# Altium integrated library Microchip Microcontroller 8-Bit PIC16.IntLib: 1412 symbols (part 24 of 47)
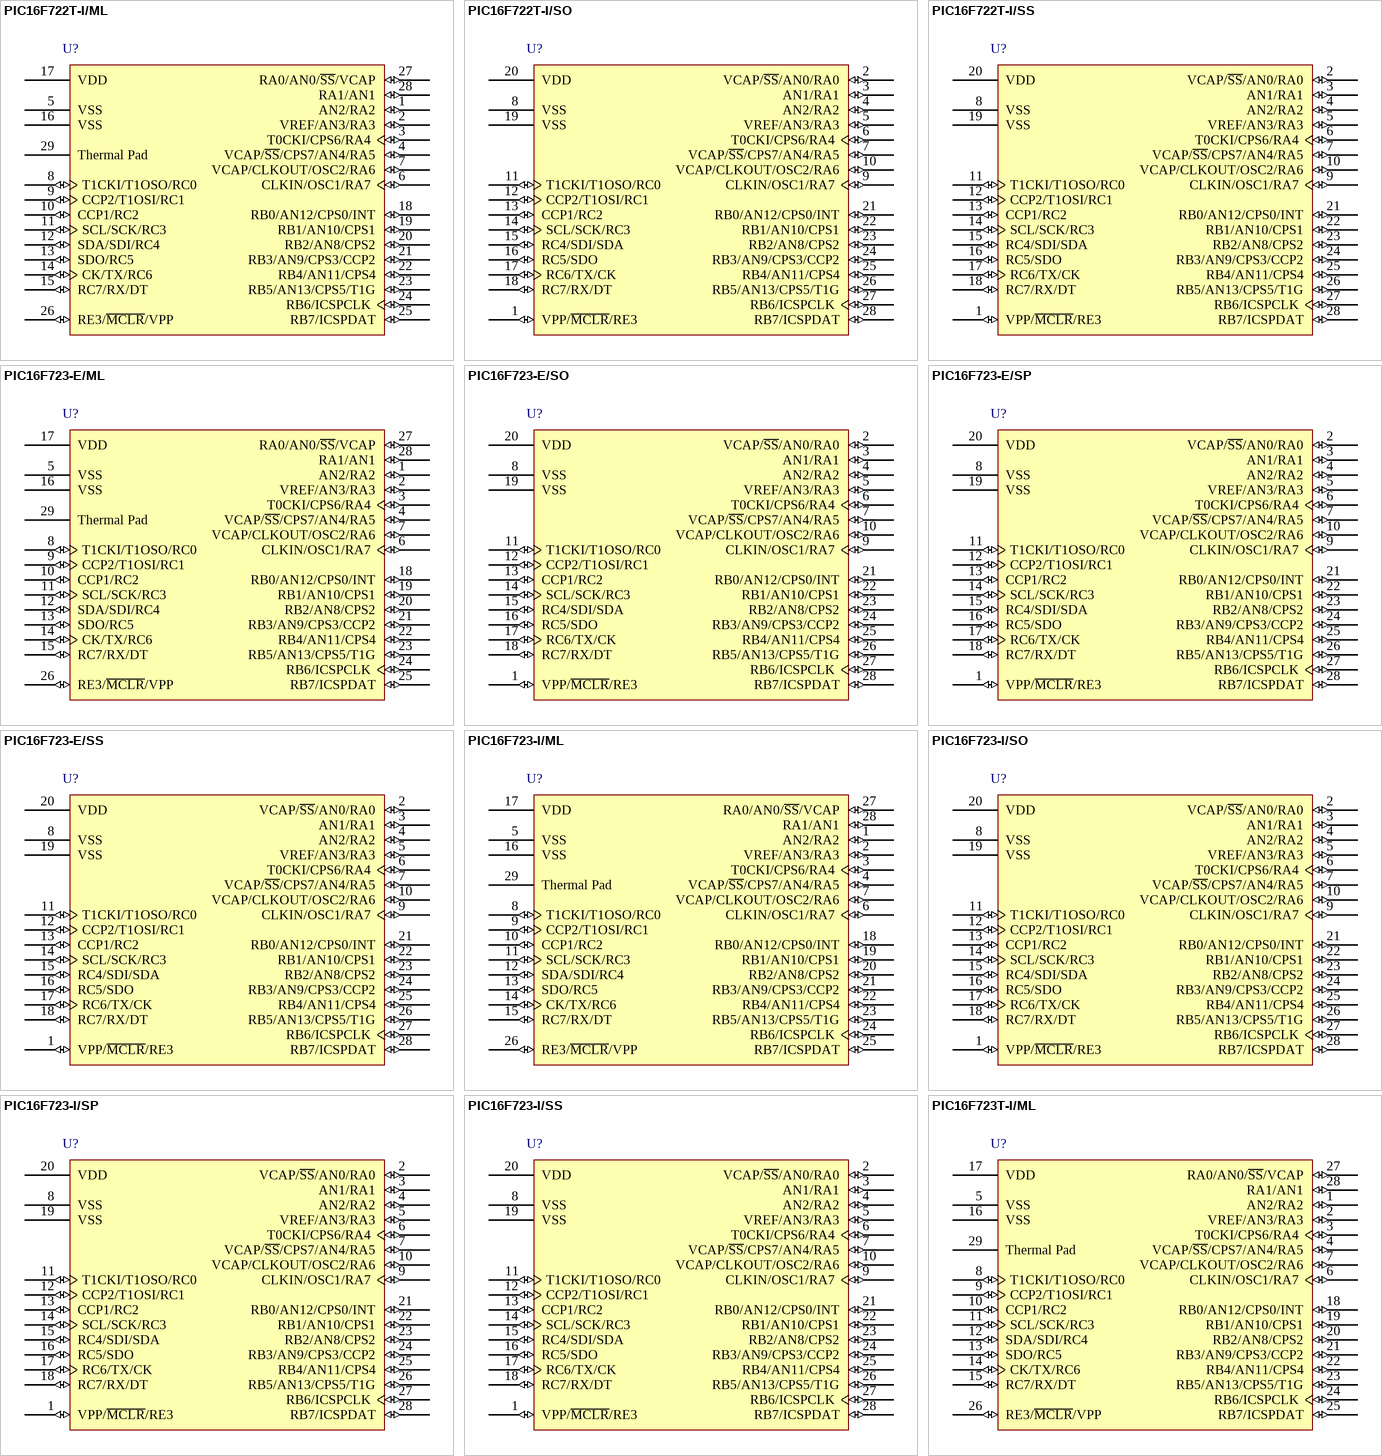
[diagram p135: symbols PIC16F722T-I/ML to PIC16F723T-I/ML]

## PIC16F723-E/SP
designator U?
Flash-Based, 8-Bit CMOS Microcontroller, 4K (x14-Bit words) Program Memory, 192 Bytes Data Memory, 25 I/O pins, 28-Pin SPDIP, Standard VDD Range, Extended Temperature; Published: 29-Jan-2009; DatasheetVersion: revB, Aug-2008; PackageVersion: revAW, Oct-2008; PackageReference: SPDIP300-SP28; Publisher: Altium Limited; PackageDescription: 28-Lead Skinny Plastic Dual In-Line (SP) - 300 mil Body [SPDIP]; ComponentLink1Description: Manufacturer Link; ComponentLink1URL: http://www.microchip.com; ComponentLink2Description: Datasheet; ComponentLink2URL: http://ww1.microchip.com/downloads/en/DeviceDoc/41341B.pdf; ComponentLink3Description: Packaging Specification; ComponentLink3URL: http://ww1.microchip.com/downloads/en/PackagingSpec/00049AW.pdf
footprint SPDIP300-SP28 (DIP, 28-Leads, Row Spacing 7.62mm, Pitch 2.54mm, Body 34.9x6.8mm)
pins: 1 VPP/~{MCLR}/RE3 (io), 2 VCAP/~{SS}/AN0/RA0 (io), 3 AN1/RA1 (io), 4 AN2/RA2 (io), 5 VREF/AN3/RA3 (io), 6 T0CKI/CPS6/RA4 (io), 7 VCAP/~{SS}/CPS7/AN4/RA5 (io), 8 VSS (power), 9 CLKIN/OSC1/RA7 (io), 10 VCAP/CLKOUT/OSC2/RA6 (io), 11 T1CKI/T1OSO/RC0 (io), 12 CCP2/T1OSI/RC1 (io), 13 CCP1/RC2 (io), 14 SCL/SCK/RC3 (io), 15 RC4/SDI/SDA (io), 16 RC5/SDO (io), 17 RC6/TX/CK (io), 18 RC7/RX/DT (io), 19 VSS (power), 20 VDD (power), 21 RB0/AN12/CPS0/INT (io), 22 RB1/AN10/CPS1 (io), 23 RB2/AN8/CPS2 (io), 24 RB3/AN9/CPS3/CCP2 (io), 25 RB4/AN11/CPS4 (io), 26 RB5/AN13/CPS5/T1G (io), 27 RB6/ICSPCLK (io), 28 RB7/ICSPDAT (io)

## PIC16F723-E/SS
designator U?
Flash-Based, 8-Bit CMOS Microcontroller, 4K (x14-Bit words) Program Memory, 192 Bytes Data Memory, 25 I/O pins, 28-Pin SSOP, Standard VDD Range, Extended Temperature; Published: 29-Jan-2009; DatasheetVersion: revB, Aug-2008; PackageVersion: revAW, Oct-2008; PackageReference: SSOP-SS28; Publisher: Altium Limited; PackageDescription: 28-Lead Plastic Shrink Small Outline (SS) - 5.3mm Body [SSOP]; Code_JEDEC: MS-150; Code_IPC: SOP65P780-28; ComponentLink1Description: Manufacturer Link; ComponentLink1URL: http://www.microchip.com; ComponentLink2Description: Datasheet; ComponentLink2URL: http://ww1.microchip.com/downloads/en/DeviceDoc/41341B.pdf; ComponentLink3Description: Packaging Specification; ComponentLink3URL: http://ww1.microchip.com/downloads/en/PackagingSpec/00049AW.pdf
footprint SSOP-SS28_N (SOP, 28-Leads, Body 10.2x5.2mm, Pitch 0.65mm, IPC Medium Density)
footprint SSOP-SS28_L (SOP, 28-Leads, Body 10.2x5.2mm, Pitch 0.65mm, IPC High Density)
footprint SSOP-SS28_M (SOP, 28-Leads, Body 10.2x5.2mm, Pitch 0.65mm, IPC Low Density)
pins: 1 VPP/~{MCLR}/RE3 (io), 2 VCAP/~{SS}/AN0/RA0 (io), 3 AN1/RA1 (io), 4 AN2/RA2 (io), 5 VREF/AN3/RA3 (io), 6 T0CKI/CPS6/RA4 (io), 7 VCAP/~{SS}/CPS7/AN4/RA5 (io), 8 VSS (power), 9 CLKIN/OSC1/RA7 (io), 10 VCAP/CLKOUT/OSC2/RA6 (io), 11 T1CKI/T1OSO/RC0 (io), 12 CCP2/T1OSI/RC1 (io), 13 CCP1/RC2 (io), 14 SCL/SCK/RC3 (io), 15 RC4/SDI/SDA (io), 16 RC5/SDO (io), 17 RC6/TX/CK (io), 18 RC7/RX/DT (io), 19 VSS (power), 20 VDD (power), 21 RB0/AN12/CPS0/INT (io), 22 RB1/AN10/CPS1 (io), 23 RB2/AN8/CPS2 (io), 24 RB3/AN9/CPS3/CCP2 (io), 25 RB4/AN11/CPS4 (io), 26 RB5/AN13/CPS5/T1G (io), 27 RB6/ICSPCLK (io), 28 RB7/ICSPDAT (io)

## PIC16F723-I/ML
designator U?
Flash-Based, 8-Bit CMOS Microcontroller, 4K (x14-Bit words) Program Memory, 192 Bytes Data Memory, 25 I/O pins, 28-Pin QFN, Standard VDD Range, Industrial Temperature; Published: 29-Jan-2009; DatasheetVersion: revB, Aug-2008; PackageVersion: revAW, Oct-2008; PackageReference: QFN-ML28; Publisher: Altium Limited; PackageDescription: 28-Lead Plastic Quad Flat, No Lead Package (ML) - 6x6 mm Body [QFN] with 0.55 mm Contact Length; Code_JEDEC: MO-220; Code_IPC: QFN65P600X600-28V; ComponentLink1Description: Manufacturer Link; ComponentLink1URL: http://www.microchip.com; ComponentLink2Description: Datasheet; ComponentLink2URL: http://ww1.microchip.com/downloads/en/DeviceDoc/41341B.pdf; ComponentLink3Description: Packaging Specification; ComponentLink3URL: http://ww1.microchip.com/downloads/en/PackagingSpec/00049AW.pdf
footprint QFN-ML28_N (QFN, 28-Leads, Body 6x6 mm, Pitch 0.65mm, IPC Medium Density)
footprint QFN-ML28_L (QFN, 28-Leads, Body 6x6 mm, Pitch 0.65mm, IPC High Density)
footprint QFN-ML28_M (QFN, 28-Leads, Body 6x6 mm, Pitch 0.65mm, IPC Low Density)
pins: 1 AN2/RA2 (io), 2 VREF/AN3/RA3 (io), 3 T0CKI/CPS6/RA4 (io), 4 VCAP/~{SS}/CPS7/AN4/RA5 (io), 5 VSS (power), 6 CLKIN/OSC1/RA7 (io), 7 VCAP/CLKOUT/OSC2/RA6 (io), 8 T1CKI/T1OSO/RC0 (io), 9 CCP2/T1OSI/RC1 (io), 10 CCP1/RC2 (io), 11 SCL/SCK/RC3 (io), 12 SDA/SDI/RC4 (io), 13 SDO/RC5 (io), 14 CK/TX/RC6 (io), 15 RC7/RX/DT (io), 16 VSS (power), 17 VDD (power), 18 RB0/AN12/CPS0/INT (io), 19 RB1/AN10/CPS1 (io), 20 RB2/AN8/CPS2 (io), 21 RB3/AN9/CPS3/CCP2 (io), 22 RB4/AN11/CPS4 (io), 23 RB5/AN13/CPS5/T1G (io), 24 RB6/ICSPCLK (io), 25 RB7/ICSPDAT (io), 26 RE3/~{MCLR}/VPP (io), 27 RA0/AN0/~{SS}/VCAP (io), 28 RA1/AN1 (io), 29 Thermal Pad

## PIC16F723-I/SO
designator U?
Flash-Based, 8-Bit CMOS Microcontroller, 4K (x14-Bit words) Program Memory, 192 Bytes Data Memory, 25 I/O pins, 28-Pin SOIC, Standard VDD Range, Industrial Temperature; Published: 29-Jan-2009; DatasheetVersion: revB, Aug-2008; PackageVersion: revAW, Oct-2008; PackageReference: SOIC-SO28; Publisher: Altium Limited; PackageDescription: 28-Lead Plastic Small Outline (SO) - Wide 7.50mm Body [SOIC]; Code_JEDEC: MS-013; ComponentLink1Description: Manufacturer Link; ComponentLink1URL: http://www.microchip.com; ComponentLink2Description: Datasheet; ComponentLink2URL: http://ww1.microchip.com/downloads/en/DeviceDoc/41341B.pdf; ComponentLink3Description: Packaging Specification; ComponentLink3URL: http://ww1.microchip.com/downloads/en/PackagingSpec/00049AW.pdf
footprint SOIC-SO28_N (SOIC, 28-Leads, Body 17.9x7.5mm, Pitch 1.27mm, IPC Medium Density)
footprint SOIC-SO28_L (SOIC, 28-Leads, Body 17.9x7.5mm, Pitch 1.27mm, IPC High Density)
footprint SOIC-SO28_M (SOIC, 28-Leads, Body 17.9x7.5mm, Pitch 1.27mm, IPC Low Density)
pins: 1 VPP/~{MCLR}/RE3 (io), 2 VCAP/~{SS}/AN0/RA0 (io), 3 AN1/RA1 (io), 4 AN2/RA2 (io), 5 VREF/AN3/RA3 (io), 6 T0CKI/CPS6/RA4 (io), 7 VCAP/~{SS}/CPS7/AN4/RA5 (io), 8 VSS (power), 9 CLKIN/OSC1/RA7 (io), 10 VCAP/CLKOUT/OSC2/RA6 (io), 11 T1CKI/T1OSO/RC0 (io), 12 CCP2/T1OSI/RC1 (io), 13 CCP1/RC2 (io), 14 SCL/SCK/RC3 (io), 15 RC4/SDI/SDA (io), 16 RC5/SDO (io), 17 RC6/TX/CK (io), 18 RC7/RX/DT (io), 19 VSS (power), 20 VDD (power), 21 RB0/AN12/CPS0/INT (io), 22 RB1/AN10/CPS1 (io), 23 RB2/AN8/CPS2 (io), 24 RB3/AN9/CPS3/CCP2 (io), 25 RB4/AN11/CPS4 (io), 26 RB5/AN13/CPS5/T1G (io), 27 RB6/ICSPCLK (io), 28 RB7/ICSPDAT (io)

## PIC16F723-I/SP
designator U?
Flash-Based, 8-Bit CMOS Microcontroller, 4K (x14-Bit words) Program Memory, 192 Bytes Data Memory, 25 I/O pins, 28-Pin SPDIP, Standard VDD Range, Industrial Temperature; Published: 29-Jan-2009; DatasheetVersion: revB, Aug-2008; PackageVersion: revAW, Oct-2008; PackageReference: SPDIP300-SP28; Publisher: Altium Limited; PackageDescription: 28-Lead Skinny Plastic Dual In-Line (SP) - 300 mil Body [SPDIP]; ComponentLink1Description: Manufacturer Link; ComponentLink1URL: http://www.microchip.com; ComponentLink2Description: Datasheet; ComponentLink2URL: http://ww1.microchip.com/downloads/en/DeviceDoc/41341B.pdf; ComponentLink3Description: Packaging Specification; ComponentLink3URL: http://ww1.microchip.com/downloads/en/PackagingSpec/00049AW.pdf
footprint SPDIP300-SP28 (DIP, 28-Leads, Row Spacing 7.62mm, Pitch 2.54mm, Body 34.9x6.8mm)
pins: 1 VPP/~{MCLR}/RE3 (io), 2 VCAP/~{SS}/AN0/RA0 (io), 3 AN1/RA1 (io), 4 AN2/RA2 (io), 5 VREF/AN3/RA3 (io), 6 T0CKI/CPS6/RA4 (io), 7 VCAP/~{SS}/CPS7/AN4/RA5 (io), 8 VSS (power), 9 CLKIN/OSC1/RA7 (io), 10 VCAP/CLKOUT/OSC2/RA6 (io), 11 T1CKI/T1OSO/RC0 (io), 12 CCP2/T1OSI/RC1 (io), 13 CCP1/RC2 (io), 14 SCL/SCK/RC3 (io), 15 RC4/SDI/SDA (io), 16 RC5/SDO (io), 17 RC6/TX/CK (io), 18 RC7/RX/DT (io), 19 VSS (power), 20 VDD (power), 21 RB0/AN12/CPS0/INT (io), 22 RB1/AN10/CPS1 (io), 23 RB2/AN8/CPS2 (io), 24 RB3/AN9/CPS3/CCP2 (io), 25 RB4/AN11/CPS4 (io), 26 RB5/AN13/CPS5/T1G (io), 27 RB6/ICSPCLK (io), 28 RB7/ICSPDAT (io)

## PIC16F723-I/SS
designator U?
Flash-Based, 8-Bit CMOS Microcontroller, 4K (x14-Bit words) Program Memory, 192 Bytes Data Memory, 25 I/O pins, 28-Pin SSOP, Standard VDD Range, Industrial Temperature; Published: 29-Jan-2009; DatasheetVersion: revB, Aug-2008; PackageVersion: revAW, Oct-2008; PackageReference: SSOP-SS28; Publisher: Altium Limited; PackageDescription: 28-Lead Plastic Shrink Small Outline (SS) - 5.3mm Body [SSOP]; Code_JEDEC: MS-150; Code_IPC: SOP65P780-28; ComponentLink1Description: Manufacturer Link; ComponentLink1URL: http://www.microchip.com; ComponentLink2Description: Datasheet; ComponentLink2URL: http://ww1.microchip.com/downloads/en/DeviceDoc/41341B.pdf; ComponentLink3Description: Packaging Specification; ComponentLink3URL: http://ww1.microchip.com/downloads/en/PackagingSpec/00049AW.pdf
footprint SSOP-SS28_N (SOP, 28-Leads, Body 10.2x5.2mm, Pitch 0.65mm, IPC Medium Density)
footprint SSOP-SS28_L (SOP, 28-Leads, Body 10.2x5.2mm, Pitch 0.65mm, IPC High Density)
footprint SSOP-SS28_M (SOP, 28-Leads, Body 10.2x5.2mm, Pitch 0.65mm, IPC Low Density)
pins: 1 VPP/~{MCLR}/RE3 (io), 2 VCAP/~{SS}/AN0/RA0 (io), 3 AN1/RA1 (io), 4 AN2/RA2 (io), 5 VREF/AN3/RA3 (io), 6 T0CKI/CPS6/RA4 (io), 7 VCAP/~{SS}/CPS7/AN4/RA5 (io), 8 VSS (power), 9 CLKIN/OSC1/RA7 (io), 10 VCAP/CLKOUT/OSC2/RA6 (io), 11 T1CKI/T1OSO/RC0 (io), 12 CCP2/T1OSI/RC1 (io), 13 CCP1/RC2 (io), 14 SCL/SCK/RC3 (io), 15 RC4/SDI/SDA (io), 16 RC5/SDO (io), 17 RC6/TX/CK (io), 18 RC7/RX/DT (io), 19 VSS (power), 20 VDD (power), 21 RB0/AN12/CPS0/INT (io), 22 RB1/AN10/CPS1 (io), 23 RB2/AN8/CPS2 (io), 24 RB3/AN9/CPS3/CCP2 (io), 25 RB4/AN11/CPS4 (io), 26 RB5/AN13/CPS5/T1G (io), 27 RB6/ICSPCLK (io), 28 RB7/ICSPDAT (io)

## PIC16F723T-I/ML
designator U?
Flash-Based, 8-Bit CMOS Microcontroller, 4K (x14-Bit words) Program Memory, 192 Bytes Data Memory, 25 I/O pins, 28-Pin QFN, Standard VDD Range, Industrial Temperature, Tape and Reel; Published: 29-Jan-2009; DatasheetVersion: revB, Aug-2008; PackageVersion: revAW, Oct-2008; PackageReference: QFN-ML28; Publisher: Altium Limited; PackageDescription: 28-Lead Plastic Quad Flat, No Lead Package (ML) - 6x6 mm Body [QFN] with 0.55 mm Contact Length; Code_JEDEC: MO-220; Code_IPC: QFN65P600X600-28V; ComponentLink1Description: Manufacturer Link; ComponentLink1URL: http://www.microchip.com; ComponentLink2Description: Datasheet; ComponentLink2URL: http://ww1.microchip.com/downloads/en/DeviceDoc/41341B.pdf; ComponentLink3Description: Packaging Specification; ComponentLink3URL: http://ww1.microchip.com/downloads/en/PackagingSpec/00049AW.pdf
footprint QFN-ML28_N (QFN, 28-Leads, Body 6x6 mm, Pitch 0.65mm, IPC Medium Density)
footprint QFN-ML28_L (QFN, 28-Leads, Body 6x6 mm, Pitch 0.65mm, IPC High Density)
footprint QFN-ML28_M (QFN, 28-Leads, Body 6x6 mm, Pitch 0.65mm, IPC Low Density)
pins: 1 AN2/RA2 (io), 2 VREF/AN3/RA3 (io), 3 T0CKI/CPS6/RA4 (io), 4 VCAP/~{SS}/CPS7/AN4/RA5 (io), 5 VSS (power), 6 CLKIN/OSC1/RA7 (io), 7 VCAP/CLKOUT/OSC2/RA6 (io), 8 T1CKI/T1OSO/RC0 (io), 9 CCP2/T1OSI/RC1 (io), 10 CCP1/RC2 (io), 11 SCL/SCK/RC3 (io), 12 SDA/SDI/RC4 (io), 13 SDO/RC5 (io), 14 CK/TX/RC6 (io), 15 RC7/RX/DT (io), 16 VSS (power), 17 VDD (power), 18 RB0/AN12/CPS0/INT (io), 19 RB1/AN10/CPS1 (io), 20 RB2/AN8/CPS2 (io), 21 RB3/AN9/CPS3/CCP2 (io), 22 RB4/AN11/CPS4 (io), 23 RB5/AN13/CPS5/T1G (io), 24 RB6/ICSPCLK (io), 25 RB7/ICSPDAT (io), 26 RE3/~{MCLR}/VPP (io), 27 RA0/AN0/~{SS}/VCAP (io), 28 RA1/AN1 (io), 29 Thermal Pad

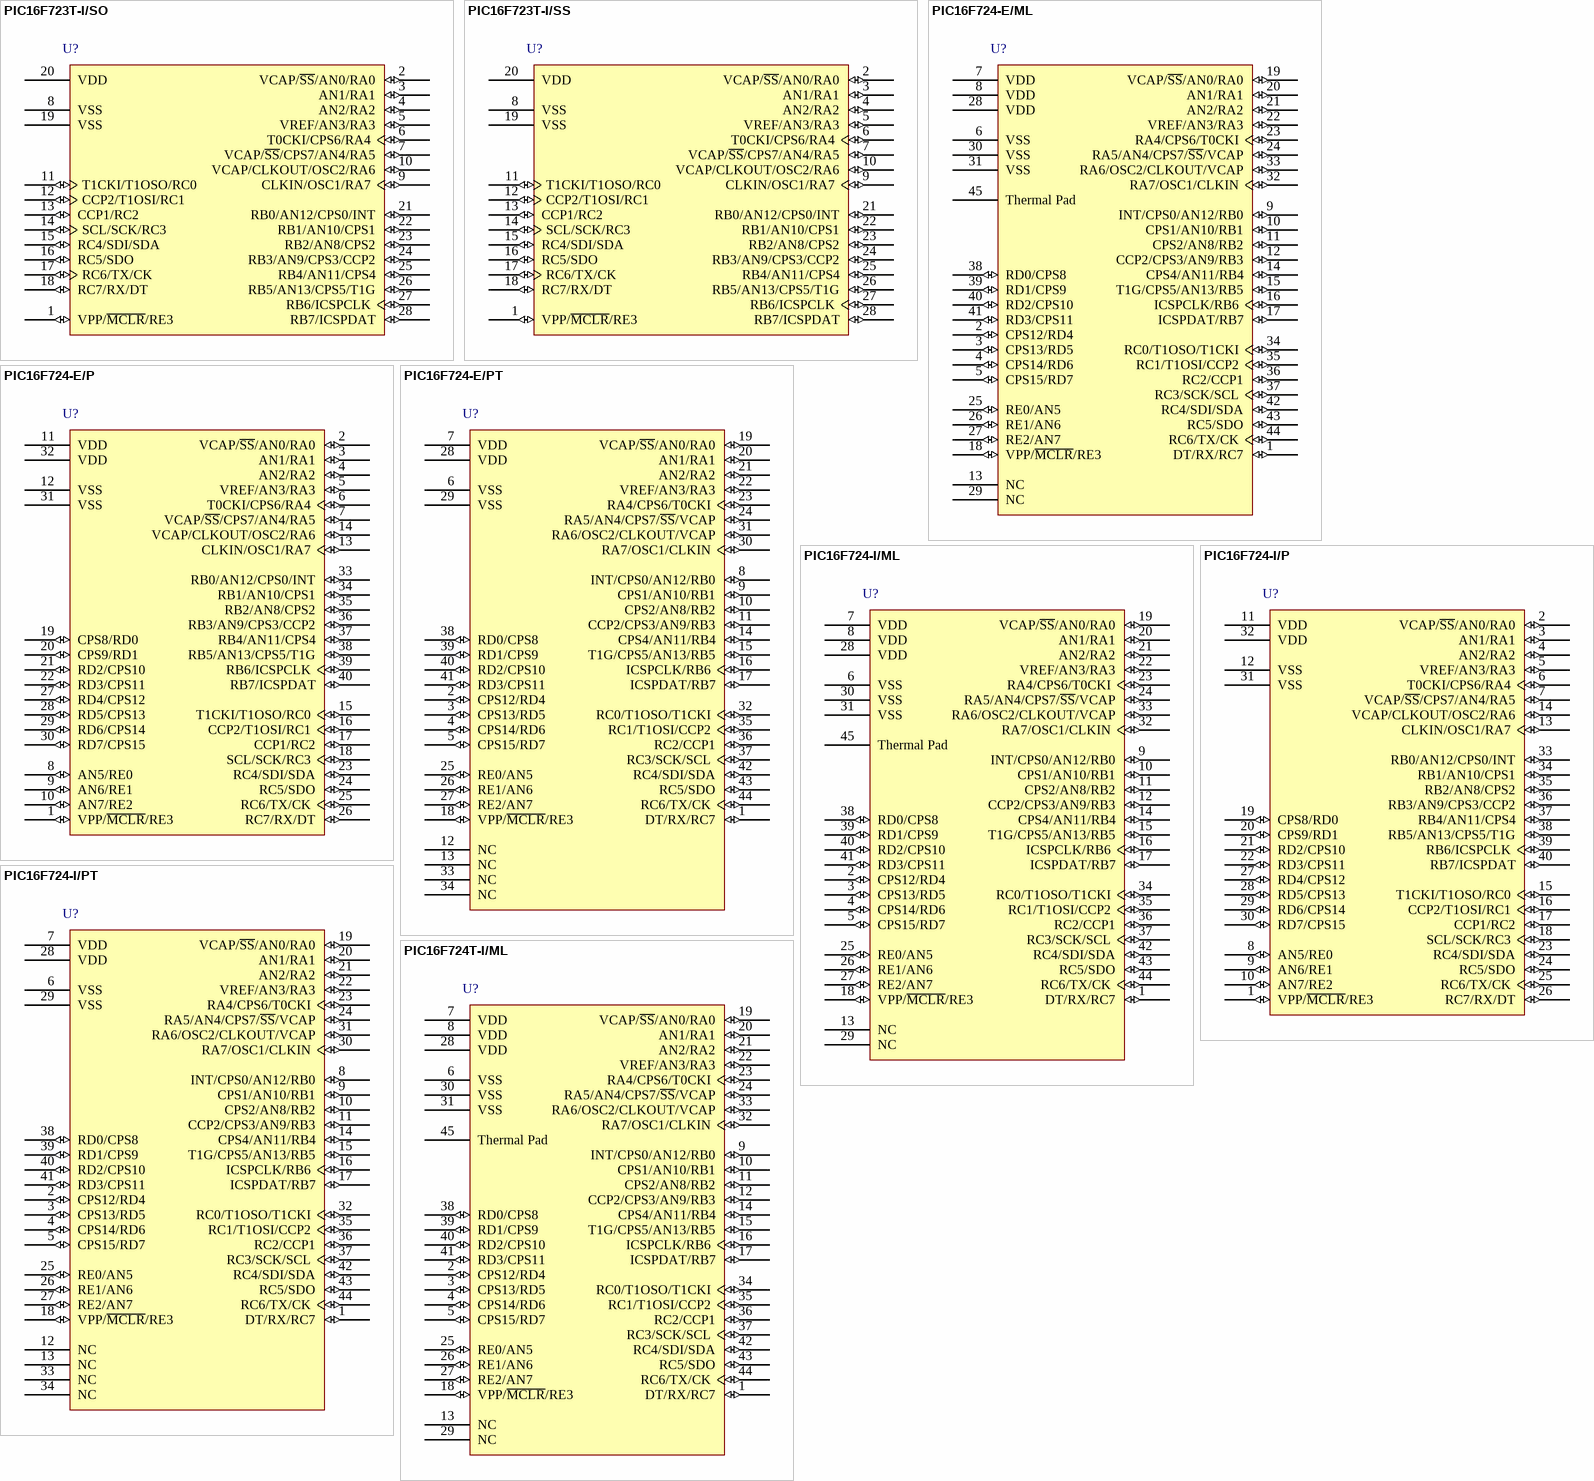
[diagram p53: symbols PIC16F723T-I/SO to PIC16F724T-I/ML]

## PIC16F723T-I/SO
designator U?
Flash-Based, 8-Bit CMOS Microcontroller, 4K (x14-Bit words) Program Memory, 192 Bytes Data Memory, 25 I/O pins, 28-Pin SOIC, Standard VDD Range, Industrial Temperature, Tape and Reel; Published: 29-Jan-2009; DatasheetVersion: revB, Aug-2008; PackageVersion: revAW, Oct-2008; PackageReference: SOIC-SO28; Publisher: Altium Limited; PackageDescription: 28-Lead Plastic Small Outline (SO) - Wide 7.50mm Body [SOIC]; Code_JEDEC: MS-013; ComponentLink1Description: Manufacturer Link; ComponentLink1URL: http://www.microchip.com; ComponentLink2Description: Datasheet; ComponentLink2URL: http://ww1.microchip.com/downloads/en/DeviceDoc/41341B.pdf; ComponentLink3Description: Packaging Specification; ComponentLink3URL: http://ww1.microchip.com/downloads/en/PackagingSpec/00049AW.pdf
footprint SOIC-SO28_N (SOIC, 28-Leads, Body 17.9x7.5mm, Pitch 1.27mm, IPC Medium Density)
footprint SOIC-SO28_L (SOIC, 28-Leads, Body 17.9x7.5mm, Pitch 1.27mm, IPC High Density)
footprint SOIC-SO28_M (SOIC, 28-Leads, Body 17.9x7.5mm, Pitch 1.27mm, IPC Low Density)
pins: 1 VPP/~{MCLR}/RE3 (io), 2 VCAP/~{SS}/AN0/RA0 (io), 3 AN1/RA1 (io), 4 AN2/RA2 (io), 5 VREF/AN3/RA3 (io), 6 T0CKI/CPS6/RA4 (io), 7 VCAP/~{SS}/CPS7/AN4/RA5 (io), 8 VSS (power), 9 CLKIN/OSC1/RA7 (io), 10 VCAP/CLKOUT/OSC2/RA6 (io), 11 T1CKI/T1OSO/RC0 (io), 12 CCP2/T1OSI/RC1 (io), 13 CCP1/RC2 (io), 14 SCL/SCK/RC3 (io), 15 RC4/SDI/SDA (io), 16 RC5/SDO (io), 17 RC6/TX/CK (io), 18 RC7/RX/DT (io), 19 VSS (power), 20 VDD (power), 21 RB0/AN12/CPS0/INT (io), 22 RB1/AN10/CPS1 (io), 23 RB2/AN8/CPS2 (io), 24 RB3/AN9/CPS3/CCP2 (io), 25 RB4/AN11/CPS4 (io), 26 RB5/AN13/CPS5/T1G (io), 27 RB6/ICSPCLK (io), 28 RB7/ICSPDAT (io)

## PIC16F723T-I/SS
designator U?
Flash-Based, 8-Bit CMOS Microcontroller, 4K (x14-Bit words) Program Memory, 192 Bytes Data Memory, 25 I/O pins, 28-Pin SSOP, Standard VDD Range, Industrial Temperature, Tape and Reel; Published: 29-Jan-2009; DatasheetVersion: revB, Aug-2008; PackageVersion: revAW, Oct-2008; PackageReference: SSOP-SS28; Publisher: Altium Limited; PackageDescription: 28-Lead Plastic Shrink Small Outline (SS) - 5.3mm Body [SSOP]; Code_JEDEC: MS-150; Code_IPC: SOP65P780-28; ComponentLink1Description: Manufacturer Link; ComponentLink1URL: http://www.microchip.com; ComponentLink2Description: Datasheet; ComponentLink2URL: http://ww1.microchip.com/downloads/en/DeviceDoc/41341B.pdf; ComponentLink3Description: Packaging Specification; ComponentLink3URL: http://ww1.microchip.com/downloads/en/PackagingSpec/00049AW.pdf
footprint SSOP-SS28_N (SOP, 28-Leads, Body 10.2x5.2mm, Pitch 0.65mm, IPC Medium Density)
footprint SSOP-SS28_L (SOP, 28-Leads, Body 10.2x5.2mm, Pitch 0.65mm, IPC High Density)
footprint SSOP-SS28_M (SOP, 28-Leads, Body 10.2x5.2mm, Pitch 0.65mm, IPC Low Density)
pins: 1 VPP/~{MCLR}/RE3 (io), 2 VCAP/~{SS}/AN0/RA0 (io), 3 AN1/RA1 (io), 4 AN2/RA2 (io), 5 VREF/AN3/RA3 (io), 6 T0CKI/CPS6/RA4 (io), 7 VCAP/~{SS}/CPS7/AN4/RA5 (io), 8 VSS (power), 9 CLKIN/OSC1/RA7 (io), 10 VCAP/CLKOUT/OSC2/RA6 (io), 11 T1CKI/T1OSO/RC0 (io), 12 CCP2/T1OSI/RC1 (io), 13 CCP1/RC2 (io), 14 SCL/SCK/RC3 (io), 15 RC4/SDI/SDA (io), 16 RC5/SDO (io), 17 RC6/TX/CK (io), 18 RC7/RX/DT (io), 19 VSS (power), 20 VDD (power), 21 RB0/AN12/CPS0/INT (io), 22 RB1/AN10/CPS1 (io), 23 RB2/AN8/CPS2 (io), 24 RB3/AN9/CPS3/CCP2 (io), 25 RB4/AN11/CPS4 (io), 26 RB5/AN13/CPS5/T1G (io), 27 RB6/ICSPCLK (io), 28 RB7/ICSPDAT (io)

## PIC16F724-E/ML
designator U?
Flash-Based, 8-Bit CMOS Microcontroller, 4K (x14-Bit words) Program Memory, 192 Bytes Data Memory, 36 I/O pins, 44-Pin QFN, Standard VDD Range, Extended Temperature; Published: 29-Jan-2009; DatasheetVersion: revB, Aug-2008; PackageVersion: revAW, Oct-2008; PackageReference: QFN-ML44; Publisher: Altium Limited; PackageDescription: 44-Lead Plastic Quad Flat, No Lead Package (ML) - 8x8 mm Body [QFN]; Code_JEDEC: MO-220; Code_IPC: QFN65P800X800-44V2; ComponentLink1Description: Manufacturer Link; ComponentLink1URL: http://www.microchip.com; ComponentLink2Description: Datasheet; ComponentLink2URL: http://ww1.microchip.com/downloads/en/DeviceDoc/41341B.pdf; ComponentLink3Description: Packaging Specification; ComponentLink3URL: http://ww1.microchip.com/downloads/en/PackagingSpec/00049AW.pdf
footprint QFN-ML44_N (QFN, 44-Leads, Body 8x8 mm, Pitch 0.65mm, IPC Medium Density)
footprint QFN-ML44_L (QFN, 44-Leads, Body 8x8 mm, Pitch 0.65mm, IPC High Density)
footprint QFN-ML44_M (QFN, 44-Leads, Body 8x8 mm, Pitch 0.65mm, IPC Low Density)
pins: 1 DT/RX/RC7 (io), 2 CPS12/RD4 (io), 3 CPS13/RD5 (io), 4 CPS14/RD6 (io), 5 CPS15/RD7 (io), 6 VSS (power), 7 VDD (power), 8 VDD (power), 9 INT/CPS0/AN12/RB0 (io), 10 CPS1/AN10/RB1 (io), 11 CPS2/AN8/RB2 (io), 12 CCP2/CPS3/AN9/RB3 (io), 13 NC, 14 CPS4/AN11/RB4 (io), 15 T1G/CPS5/AN13/RB5 (io), 16 ICSPCLK/RB6 (io), 17 ICSPDAT/RB7 (io), 18 VPP/~{MCLR}/RE3 (io), 19 VCAP/~{SS}/AN0/RA0 (io), 20 AN1/RA1 (io), 21 AN2/RA2 (io), 22 VREF/AN3/RA3 (io), 23 RA4/CPS6/T0CKI (io), 24 RA5/AN4/CPS7/~{SS}/VCAP (io), 25 RE0/AN5 (io), 26 RE1/AN6 (io), 27 RE2/AN7 (io), 28 VDD (power), 29 NC, 30 VSS (power), 31 VSS (power), 32 RA7/OSC1/CLKIN (io), 33 RA6/OSC2/CLKOUT/VCAP (io), 34 RC0/T1OSO/T1CKI (io), 35 RC1/T1OSI/CCP2 (io), 36 RC2/CCP1 (io), 37 RC3/SCK/SCL (io), 38 RD0/CPS8 (io), 39 RD1/CPS9 (io), 40 RD2/CPS10 (io), 41 RD3/CPS11 (io), 42 RC4/SDI/SDA (io), 43 RC5/SDO (io), 44 RC6/TX/CK (io), 45 Thermal Pad

## PIC16F724-E/P
designator U?
Flash-Based, 8-Bit CMOS Microcontroller, 4K (x14-Bit words) Program Memory, 192 Bytes Data Memory, 36 I/O pins, 40-Pin PDIP, Standard VDD Range, Extended Temperature; Published: 29-Jan-2009; DatasheetVersion: revB, Aug-2008; PackageVersion: revAW, Oct-2008; PackageReference: PDIP600-P40; Publisher: Altium Limited; PackageDescription: 40-Lead Plastic Dual In-Line (P) - 600 mil Body [PDIP]; ComponentLink1Description: Manufacturer Link; ComponentLink1URL: http://www.microchip.com; ComponentLink2Description: Datasheet; ComponentLink2URL: http://ww1.microchip.com/downloads/en/DeviceDoc/41341B.pdf; ComponentLink3Description: Packaging Specification; ComponentLink3URL: http://ww1.microchip.com/downloads/en/PackagingSpec/00049AW.pdf
footprint PDIP600-P40 (DIP, 40-Leads, Row Spacing 15.24mm, Pitch 2.54mm, Body 51.8x13.5mm)
pins: 1 VPP/~{MCLR}/RE3 (io), 2 VCAP/~{SS}/AN0/RA0 (io), 3 AN1/RA1 (io), 4 AN2/RA2 (io), 5 VREF/AN3/RA3 (io), 6 T0CKI/CPS6/RA4 (io), 7 VCAP/~{SS}/CPS7/AN4/RA5 (io), 8 AN5/RE0 (io), 9 AN6/RE1 (io), 10 AN7/RE2 (io), 11 VDD (power), 12 VSS (power), 13 CLKIN/OSC1/RA7 (io), 14 VCAP/CLKOUT/OSC2/RA6 (io), 15 T1CKI/T1OSO/RC0 (io), 16 CCP2/T1OSI/RC1 (io), 17 CCP1/RC2 (io), 18 SCL/SCK/RC3 (io), 19 CPS8/RD0 (io), 20 CPS9/RD1 (io), 21 RD2/CPS10 (io), 22 RD3/CPS11 (io), 23 RC4/SDI/SDA (io), 24 RC5/SDO (io), 25 RC6/TX/CK (io), 26 RC7/RX/DT (io), 27 RD4/CPS12 (io), 28 RD5/CPS13 (io), 29 RD6/CPS14 (io), 30 RD7/CPS15 (io), 31 VSS (power), 32 VDD (power), 33 RB0/AN12/CPS0/INT (io), 34 RB1/AN10/CPS1 (io), 35 RB2/AN8/CPS2 (io), 36 RB3/AN9/CPS3/CCP2 (io), 37 RB4/AN11/CPS4 (io), 38 RB5/AN13/CPS5/T1G (io), 39 RB6/ICSPCLK (io), 40 RB7/ICSPDAT (io)

## PIC16F724-E/PT
designator U?
Flash-Based, 8-Bit CMOS Microcontroller, 4K (x14-Bit words) Program Memory, 192 Bytes Data Memory, 36 I/O pins, 44-Pin TQFP, Standard VDD Range, Extended Temperature; Published: 29-Jan-2009; DatasheetVersion: revB, Aug-2008; PackageVersion: revAW, Oct-2008; PackageReference: TQFP-PT44; Publisher: Altium Limited; PackageDescription: 44-Lead Plastic Thin Quad Flatpack (PT) - 10x10x1mm Body, 2.00mm [TQFP]; Code_JEDEC: MS-026; ComponentLink1Description: Manufacturer Link; ComponentLink1URL: http://www.microchip.com; ComponentLink2Description: Datasheet; ComponentLink2URL: http://ww1.microchip.com/downloads/en/DeviceDoc/41341B.pdf; ComponentLink3Description: Packaging Specification; ComponentLink3URL: http://ww1.microchip.com/downloads/en/PackagingSpec/00049AW.pdf
footprint TQFP-PT44_N (Thin QFP, 44-Leads, Body 10x10mm, Pitch 0.8mm, IPC Medium Density)
footprint TQFP-PT44_L (Thin QFP, 44-Leads, Body 10x10mm, Pitch 0.8mm, IPC High Density)
footprint TQFP-PT44_M (Thin QFP, 44-Leads, Body 10x10mm, Pitch 0.8mm, IPC Low Density)
pins: 1 DT/RX/RC7 (io), 2 CPS12/RD4 (io), 3 CPS13/RD5 (io), 4 CPS14/RD6 (io), 5 CPS15/RD7 (io), 6 VSS (power), 7 VDD (power), 8 INT/CPS0/AN12/RB0 (io), 9 CPS1/AN10/RB1 (io), 10 CPS2/AN8/RB2 (io), 11 CCP2/CPS3/AN9/RB3 (io), 12 NC, 13 NC, 14 CPS4/AN11/RB4 (io), 15 T1G/CPS5/AN13/RB5 (io), 16 ICSPCLK/RB6 (io), 17 ICSPDAT/RB7 (io), 18 VPP/~{MCLR}/RE3 (io), 19 VCAP/~{SS}/AN0/RA0 (io), 20 AN1/RA1 (io), 21 AN2/RA2 (io), 22 VREF/AN3/RA3 (io), 23 RA4/CPS6/T0CKI (io), 24 RA5/AN4/CPS7/~{SS}/VCAP (io), 25 RE0/AN5 (io), 26 RE1/AN6 (io), 27 RE2/AN7 (io), 28 VDD (power), 29 VSS (power), 30 RA7/OSC1/CLKIN (io), 31 RA6/OSC2/CLKOUT/VCAP (io), 32 RC0/T1OSO/T1CKI (io), 33 NC, 34 NC, 35 RC1/T1OSI/CCP2 (io), 36 RC2/CCP1 (io), 37 RC3/SCK/SCL (io), 38 RD0/CPS8 (io), 39 RD1/CPS9 (io), 40 RD2/CPS10 (io), 41 RD3/CPS11 (io), 42 RC4/SDI/SDA (io), 43 RC5/SDO (io), 44 RC6/TX/CK (io)

## PIC16F724-I/ML
designator U?
Flash-Based, 8-Bit CMOS Microcontroller, 4K (x14-Bit words) Program Memory, 192 Bytes Data Memory, 36 I/O pins, 44-Pin QFN, Standard VDD Range, Industrial Temperature; Published: 29-Jan-2009; DatasheetVersion: revB, Aug-2008; PackageVersion: revAW, Oct-2008; PackageReference: QFN-ML44; Publisher: Altium Limited; PackageDescription: 44-Lead Plastic Quad Flat, No Lead Package (ML) - 8x8 mm Body [QFN]; Code_JEDEC: MO-220; Code_IPC: QFN65P800X800-44V2; ComponentLink1Description: Manufacturer Link; ComponentLink1URL: http://www.microchip.com; ComponentLink2Description: Datasheet; ComponentLink2URL: http://ww1.microchip.com/downloads/en/DeviceDoc/41341B.pdf; ComponentLink3Description: Packaging Specification; ComponentLink3URL: http://ww1.microchip.com/downloads/en/PackagingSpec/00049AW.pdf
footprint QFN-ML44_N (QFN, 44-Leads, Body 8x8 mm, Pitch 0.65mm, IPC Medium Density)
footprint QFN-ML44_L (QFN, 44-Leads, Body 8x8 mm, Pitch 0.65mm, IPC High Density)
footprint QFN-ML44_M (QFN, 44-Leads, Body 8x8 mm, Pitch 0.65mm, IPC Low Density)
pins: 1 DT/RX/RC7 (io), 2 CPS12/RD4 (io), 3 CPS13/RD5 (io), 4 CPS14/RD6 (io), 5 CPS15/RD7 (io), 6 VSS (power), 7 VDD (power), 8 VDD (power), 9 INT/CPS0/AN12/RB0 (io), 10 CPS1/AN10/RB1 (io), 11 CPS2/AN8/RB2 (io), 12 CCP2/CPS3/AN9/RB3 (io), 13 NC, 14 CPS4/AN11/RB4 (io), 15 T1G/CPS5/AN13/RB5 (io), 16 ICSPCLK/RB6 (io), 17 ICSPDAT/RB7 (io), 18 VPP/~{MCLR}/RE3 (io), 19 VCAP/~{SS}/AN0/RA0 (io), 20 AN1/RA1 (io), 21 AN2/RA2 (io), 22 VREF/AN3/RA3 (io), 23 RA4/CPS6/T0CKI (io), 24 RA5/AN4/CPS7/~{SS}/VCAP (io), 25 RE0/AN5 (io), 26 RE1/AN6 (io), 27 RE2/AN7 (io), 28 VDD (power), 29 NC, 30 VSS (power), 31 VSS (power), 32 RA7/OSC1/CLKIN (io), 33 RA6/OSC2/CLKOUT/VCAP (io), 34 RC0/T1OSO/T1CKI (io), 35 RC1/T1OSI/CCP2 (io), 36 RC2/CCP1 (io), 37 RC3/SCK/SCL (io), 38 RD0/CPS8 (io), 39 RD1/CPS9 (io), 40 RD2/CPS10 (io), 41 RD3/CPS11 (io), 42 RC4/SDI/SDA (io), 43 RC5/SDO (io), 44 RC6/TX/CK (io), 45 Thermal Pad

## PIC16F724-I/P
designator U?
Flash-Based, 8-Bit CMOS Microcontroller, 4K (x14-Bit words) Program Memory, 192 Bytes Data Memory, 36 I/O pins, 40-Pin PDIP, Standard VDD Range, Industrial Temperature; Published: 29-Jan-2009; DatasheetVersion: revB, Aug-2008; PackageVersion: revAW, Oct-2008; PackageReference: PDIP600-P40; Publisher: Altium Limited; PackageDescription: 40-Lead Plastic Dual In-Line (P) - 600 mil Body [PDIP]; ComponentLink1Description: Manufacturer Link; ComponentLink1URL: http://www.microchip.com; ComponentLink2Description: Datasheet; ComponentLink2URL: http://ww1.microchip.com/downloads/en/DeviceDoc/41341B.pdf; ComponentLink3Description: Packaging Specification; ComponentLink3URL: http://ww1.microchip.com/downloads/en/PackagingSpec/00049AW.pdf
footprint PDIP600-P40 (DIP, 40-Leads, Row Spacing 15.24mm, Pitch 2.54mm, Body 51.8x13.5mm)
pins: 1 VPP/~{MCLR}/RE3 (io), 2 VCAP/~{SS}/AN0/RA0 (io), 3 AN1/RA1 (io), 4 AN2/RA2 (io), 5 VREF/AN3/RA3 (io), 6 T0CKI/CPS6/RA4 (io), 7 VCAP/~{SS}/CPS7/AN4/RA5 (io), 8 AN5/RE0 (io), 9 AN6/RE1 (io), 10 AN7/RE2 (io), 11 VDD (power), 12 VSS (power), 13 CLKIN/OSC1/RA7 (io), 14 VCAP/CLKOUT/OSC2/RA6 (io), 15 T1CKI/T1OSO/RC0 (io), 16 CCP2/T1OSI/RC1 (io), 17 CCP1/RC2 (io), 18 SCL/SCK/RC3 (io), 19 CPS8/RD0 (io), 20 CPS9/RD1 (io), 21 RD2/CPS10 (io), 22 RD3/CPS11 (io), 23 RC4/SDI/SDA (io), 24 RC5/SDO (io), 25 RC6/TX/CK (io), 26 RC7/RX/DT (io), 27 RD4/CPS12 (io), 28 RD5/CPS13 (io), 29 RD6/CPS14 (io), 30 RD7/CPS15 (io), 31 VSS (power), 32 VDD (power), 33 RB0/AN12/CPS0/INT (io), 34 RB1/AN10/CPS1 (io), 35 RB2/AN8/CPS2 (io), 36 RB3/AN9/CPS3/CCP2 (io), 37 RB4/AN11/CPS4 (io), 38 RB5/AN13/CPS5/T1G (io), 39 RB6/ICSPCLK (io), 40 RB7/ICSPDAT (io)

## PIC16F724-I/PT
designator U?
Flash-Based, 8-Bit CMOS Microcontroller, 4K (x14-Bit words) Program Memory, 192 Bytes Data Memory, 36 I/O pins, 44-Pin TQFP, Standard VDD Range, Industrial Temperature; Published: 29-Jan-2009; DatasheetVersion: revB, Aug-2008; PackageVersion: revAW, Oct-2008; PackageReference: TQFP-PT44; Publisher: Altium Limited; PackageDescription: 44-Lead Plastic Thin Quad Flatpack (PT) - 10x10x1mm Body, 2.00mm [TQFP]; Code_JEDEC: MS-026; ComponentLink1Description: Manufacturer Link; ComponentLink1URL: http://www.microchip.com; ComponentLink2Description: Datasheet; ComponentLink2URL: http://ww1.microchip.com/downloads/en/DeviceDoc/41341B.pdf; ComponentLink3Description: Packaging Specification; ComponentLink3URL: http://ww1.microchip.com/downloads/en/PackagingSpec/00049AW.pdf
footprint TQFP-PT44_N (Thin QFP, 44-Leads, Body 10x10mm, Pitch 0.8mm, IPC Medium Density)
footprint TQFP-PT44_L (Thin QFP, 44-Leads, Body 10x10mm, Pitch 0.8mm, IPC High Density)
footprint TQFP-PT44_M (Thin QFP, 44-Leads, Body 10x10mm, Pitch 0.8mm, IPC Low Density)
pins: 1 DT/RX/RC7 (io), 2 CPS12/RD4 (io), 3 CPS13/RD5 (io), 4 CPS14/RD6 (io), 5 CPS15/RD7 (io), 6 VSS (power), 7 VDD (power), 8 INT/CPS0/AN12/RB0 (io), 9 CPS1/AN10/RB1 (io), 10 CPS2/AN8/RB2 (io), 11 CCP2/CPS3/AN9/RB3 (io), 12 NC, 13 NC, 14 CPS4/AN11/RB4 (io), 15 T1G/CPS5/AN13/RB5 (io), 16 ICSPCLK/RB6 (io), 17 ICSPDAT/RB7 (io), 18 VPP/~{MCLR}/RE3 (io), 19 VCAP/~{SS}/AN0/RA0 (io), 20 AN1/RA1 (io), 21 AN2/RA2 (io), 22 VREF/AN3/RA3 (io), 23 RA4/CPS6/T0CKI (io), 24 RA5/AN4/CPS7/~{SS}/VCAP (io), 25 RE0/AN5 (io), 26 RE1/AN6 (io), 27 RE2/AN7 (io), 28 VDD (power), 29 VSS (power), 30 RA7/OSC1/CLKIN (io), 31 RA6/OSC2/CLKOUT/VCAP (io), 32 RC0/T1OSO/T1CKI (io), 33 NC, 34 NC, 35 RC1/T1OSI/CCP2 (io), 36 RC2/CCP1 (io), 37 RC3/SCK/SCL (io), 38 RD0/CPS8 (io), 39 RD1/CPS9 (io), 40 RD2/CPS10 (io), 41 RD3/CPS11 (io), 42 RC4/SDI/SDA (io), 43 RC5/SDO (io), 44 RC6/TX/CK (io)

## PIC16F724T-I/ML
designator U?
Flash-Based, 8-Bit CMOS Microcontroller, 4K (x14-Bit words) Program Memory, 192 Bytes Data Memory, 36 I/O pins, 44-Pin QFN, Standard VDD Range, Industrial Temperature, Tape and Reel; Published: 29-Jan-2009; DatasheetVersion: revB, Aug-2008; PackageVersion: revAW, Oct-2008; PackageReference: QFN-ML44; Publisher: Altium Limited; PackageDescription: 44-Lead Plastic Quad Flat, No Lead Package (ML) - 8x8 mm Body [QFN]; Code_JEDEC: MO-220; Code_IPC: QFN65P800X800-44V2; ComponentLink1Description: Manufacturer Link; ComponentLink1URL: http://www.microchip.com; ComponentLink2Description: Datasheet; ComponentLink2URL: http://ww1.microchip.com/downloads/en/DeviceDoc/41341B.pdf; ComponentLink3Description: Packaging Specification; ComponentLink3URL: http://ww1.microchip.com/downloads/en/PackagingSpec/00049AW.pdf
footprint QFN-ML44_N (QFN, 44-Leads, Body 8x8 mm, Pitch 0.65mm, IPC Medium Density)
footprint QFN-ML44_L (QFN, 44-Leads, Body 8x8 mm, Pitch 0.65mm, IPC High Density)
footprint QFN-ML44_M (QFN, 44-Leads, Body 8x8 mm, Pitch 0.65mm, IPC Low Density)
pins: 1 DT/RX/RC7 (io), 2 CPS12/RD4 (io), 3 CPS13/RD5 (io), 4 CPS14/RD6 (io), 5 CPS15/RD7 (io), 6 VSS (power), 7 VDD (power), 8 VDD (power), 9 INT/CPS0/AN12/RB0 (io), 10 CPS1/AN10/RB1 (io), 11 CPS2/AN8/RB2 (io), 12 CCP2/CPS3/AN9/RB3 (io), 13 NC, 14 CPS4/AN11/RB4 (io), 15 T1G/CPS5/AN13/RB5 (io), 16 ICSPCLK/RB6 (io), 17 ICSPDAT/RB7 (io), 18 VPP/~{MCLR}/RE3 (io), 19 VCAP/~{SS}/AN0/RA0 (io), 20 AN1/RA1 (io), 21 AN2/RA2 (io), 22 VREF/AN3/RA3 (io), 23 RA4/CPS6/T0CKI (io), 24 RA5/AN4/CPS7/~{SS}/VCAP (io), 25 RE0/AN5 (io), 26 RE1/AN6 (io), 27 RE2/AN7 (io), 28 VDD (power), 29 NC, 30 VSS (power), 31 VSS (power), 32 RA7/OSC1/CLKIN (io), 33 RA6/OSC2/CLKOUT/VCAP (io), 34 RC0/T1OSO/T1CKI (io), 35 RC1/T1OSI/CCP2 (io), 36 RC2/CCP1 (io), 37 RC3/SCK/SCL (io), 38 RD0/CPS8 (io), 39 RD1/CPS9 (io), 40 RD2/CPS10 (io), 41 RD3/CPS11 (io), 42 RC4/SDI/SDA (io), 43 RC5/SDO (io), 44 RC6/TX/CK (io), 45 Thermal Pad

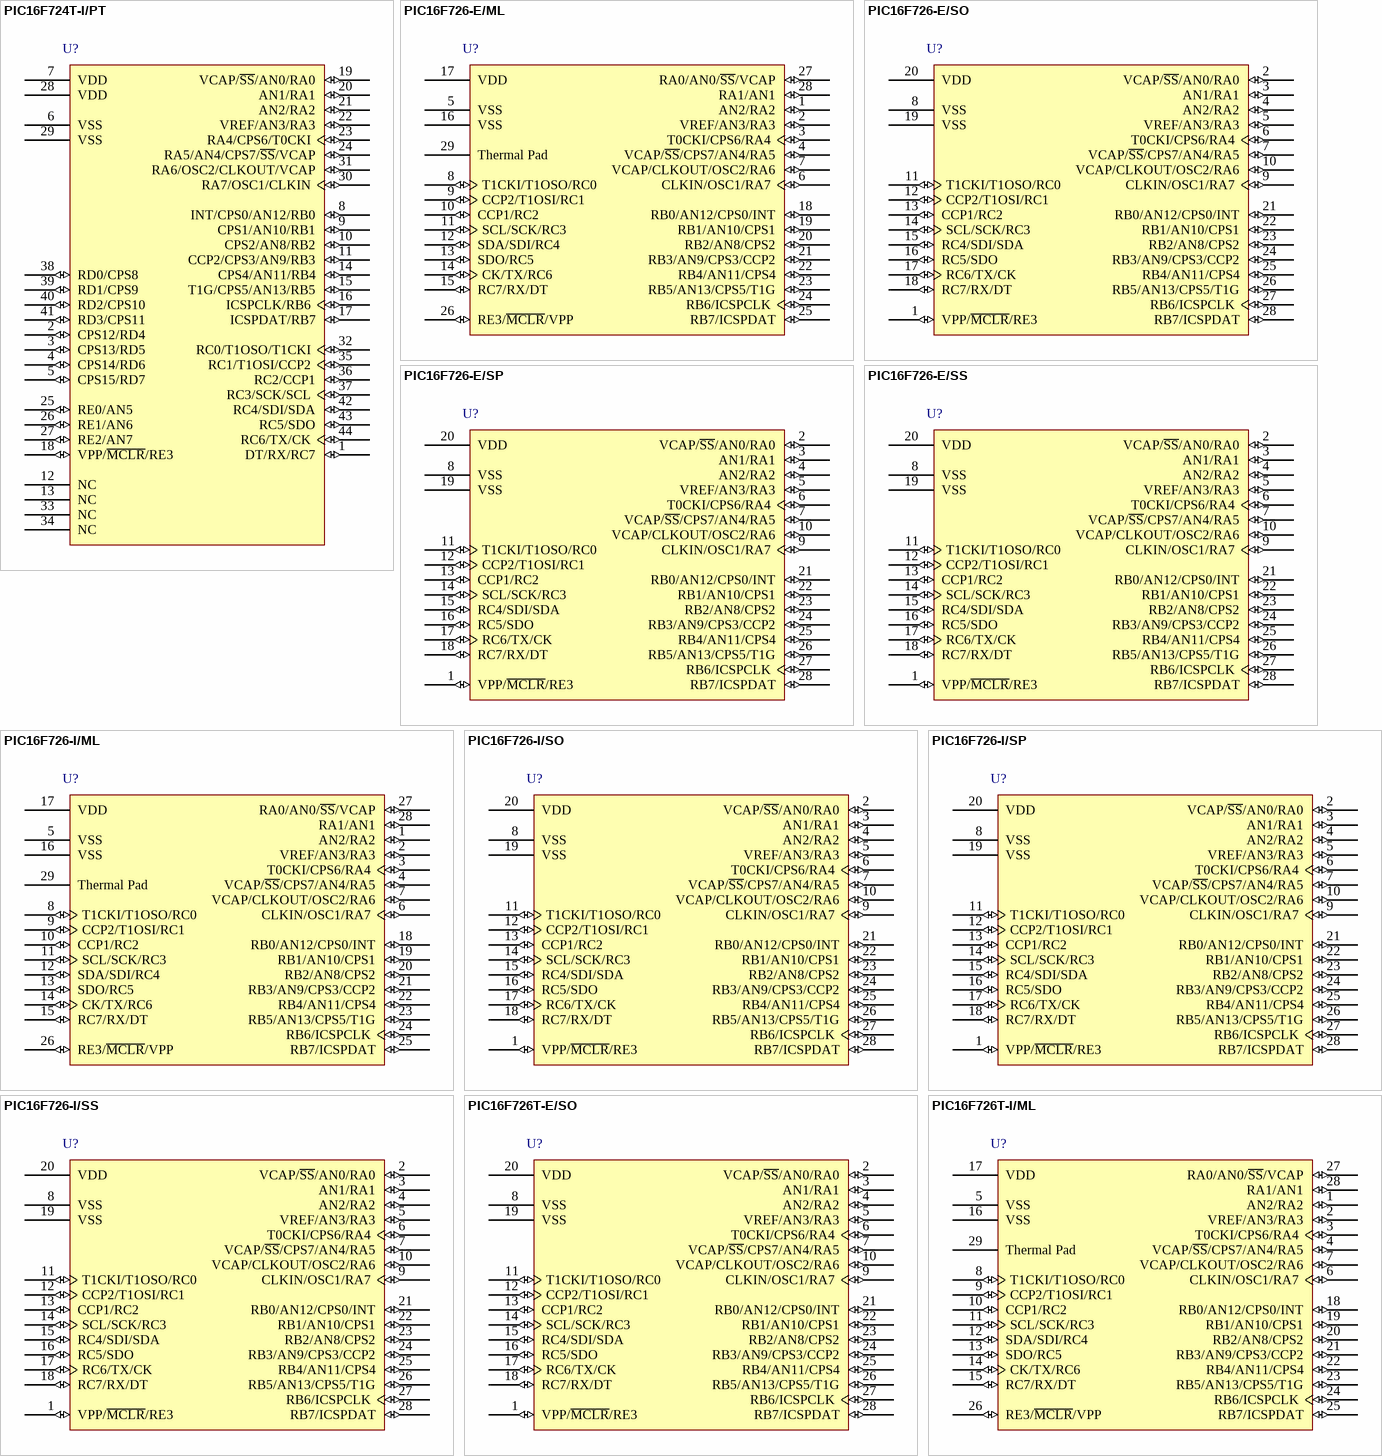
[diagram p54: symbols PIC16F724T-I/PT to PIC16F726T-I/ML]

## PIC16F724T-I/PT
designator U?
Flash-Based, 8-Bit CMOS Microcontroller, 4K (x14-Bit words) Program Memory, 192 Bytes Data Memory, 36 I/O pins, 44-Pin TQFP, Standard VDD Range, Industrial Temperature, Tape and Reel; Published: 29-Jan-2009; DatasheetVersion: revB, Aug-2008; PackageVersion: revAW, Oct-2008; PackageReference: TQFP-PT44; Publisher: Altium Limited; PackageDescription: 44-Lead Plastic Thin Quad Flatpack (PT) - 10x10x1mm Body, 2.00mm [TQFP]; Code_JEDEC: MS-026; ComponentLink1Description: Manufacturer Link; ComponentLink1URL: http://www.microchip.com; ComponentLink2Description: Datasheet; ComponentLink2URL: http://ww1.microchip.com/downloads/en/DeviceDoc/41341B.pdf; ComponentLink3Description: Packaging Specification; ComponentLink3URL: http://ww1.microchip.com/downloads/en/PackagingSpec/00049AW.pdf
footprint TQFP-PT44_N (Thin QFP, 44-Leads, Body 10x10mm, Pitch 0.8mm, IPC Medium Density)
footprint TQFP-PT44_L (Thin QFP, 44-Leads, Body 10x10mm, Pitch 0.8mm, IPC High Density)
footprint TQFP-PT44_M (Thin QFP, 44-Leads, Body 10x10mm, Pitch 0.8mm, IPC Low Density)
pins: 1 DT/RX/RC7 (io), 2 CPS12/RD4 (io), 3 CPS13/RD5 (io), 4 CPS14/RD6 (io), 5 CPS15/RD7 (io), 6 VSS (power), 7 VDD (power), 8 INT/CPS0/AN12/RB0 (io), 9 CPS1/AN10/RB1 (io), 10 CPS2/AN8/RB2 (io), 11 CCP2/CPS3/AN9/RB3 (io), 12 NC, 13 NC, 14 CPS4/AN11/RB4 (io), 15 T1G/CPS5/AN13/RB5 (io), 16 ICSPCLK/RB6 (io), 17 ICSPDAT/RB7 (io), 18 VPP/~{MCLR}/RE3 (io), 19 VCAP/~{SS}/AN0/RA0 (io), 20 AN1/RA1 (io), 21 AN2/RA2 (io), 22 VREF/AN3/RA3 (io), 23 RA4/CPS6/T0CKI (io), 24 RA5/AN4/CPS7/~{SS}/VCAP (io), 25 RE0/AN5 (io), 26 RE1/AN6 (io), 27 RE2/AN7 (io), 28 VDD (power), 29 VSS (power), 30 RA7/OSC1/CLKIN (io), 31 RA6/OSC2/CLKOUT/VCAP (io), 32 RC0/T1OSO/T1CKI (io), 33 NC, 34 NC, 35 RC1/T1OSI/CCP2 (io), 36 RC2/CCP1 (io), 37 RC3/SCK/SCL (io), 38 RD0/CPS8 (io), 39 RD1/CPS9 (io), 40 RD2/CPS10 (io), 41 RD3/CPS11 (io), 42 RC4/SDI/SDA (io), 43 RC5/SDO (io), 44 RC6/TX/CK (io)

## PIC16F726-E/ML
designator U?
Flash-Based, 8-Bit CMOS Microcontroller, 8K (x14-Bit words) Program Memory, 368 Bytes Data Memory, 25 I/O pins, 28-Pin QFN, Standard VDD Range, Extended Temperature; Published: 29-Jan-2009; DatasheetVersion: revB, Aug-2008; PackageVersion: revAW, Oct-2008; PackageReference: QFN-ML28; Publisher: Altium Limited; PackageDescription: 28-Lead Plastic Quad Flat, No Lead Package (ML) - 6x6 mm Body [QFN] with 0.55 mm Contact Length; Code_JEDEC: MO-220; Code_IPC: QFN65P600X600-28V; ComponentLink1Description: Manufacturer Link; ComponentLink1URL: http://www.microchip.com; ComponentLink2Description: Datasheet; ComponentLink2URL: http://ww1.microchip.com/downloads/en/DeviceDoc/41341B.pdf; ComponentLink3Description: Packaging Specification; ComponentLink3URL: http://ww1.microchip.com/downloads/en/PackagingSpec/00049AW.pdf
footprint QFN-ML28_N (QFN, 28-Leads, Body 6x6 mm, Pitch 0.65mm, IPC Medium Density)
footprint QFN-ML28_L (QFN, 28-Leads, Body 6x6 mm, Pitch 0.65mm, IPC High Density)
footprint QFN-ML28_M (QFN, 28-Leads, Body 6x6 mm, Pitch 0.65mm, IPC Low Density)
pins: 1 AN2/RA2 (io), 2 VREF/AN3/RA3 (io), 3 T0CKI/CPS6/RA4 (io), 4 VCAP/~{SS}/CPS7/AN4/RA5 (io), 5 VSS (power), 6 CLKIN/OSC1/RA7 (io), 7 VCAP/CLKOUT/OSC2/RA6 (io), 8 T1CKI/T1OSO/RC0 (io), 9 CCP2/T1OSI/RC1 (io), 10 CCP1/RC2 (io), 11 SCL/SCK/RC3 (io), 12 SDA/SDI/RC4 (io), 13 SDO/RC5 (io), 14 CK/TX/RC6 (io), 15 RC7/RX/DT (io), 16 VSS (power), 17 VDD (power), 18 RB0/AN12/CPS0/INT (io), 19 RB1/AN10/CPS1 (io), 20 RB2/AN8/CPS2 (io), 21 RB3/AN9/CPS3/CCP2 (io), 22 RB4/AN11/CPS4 (io), 23 RB5/AN13/CPS5/T1G (io), 24 RB6/ICSPCLK (io), 25 RB7/ICSPDAT (io), 26 RE3/~{MCLR}/VPP (io), 27 RA0/AN0/~{SS}/VCAP (io), 28 RA1/AN1 (io), 29 Thermal Pad

## PIC16F726-E/SO
designator U?
Flash-Based, 8-Bit CMOS Microcontroller, 8K (x14-Bit words) Program Memory, 368 Bytes Data Memory, 25 I/O pins, 28-Pin SOIC, Standard VDD Range, Extended Temperature; Published: 29-Jan-2009; DatasheetVersion: revB, Aug-2008; PackageVersion: revAW, Oct-2008; PackageReference: SOIC-SO28; Publisher: Altium Limited; PackageDescription: 28-Lead Plastic Small Outline (SO) - Wide 7.50mm Body [SOIC]; Code_JEDEC: MS-013; ComponentLink1Description: Manufacturer Link; ComponentLink1URL: http://www.microchip.com; ComponentLink2Description: Datasheet; ComponentLink2URL: http://ww1.microchip.com/downloads/en/DeviceDoc/41341B.pdf; ComponentLink3Description: Packaging Specification; ComponentLink3URL: http://ww1.microchip.com/downloads/en/PackagingSpec/00049AW.pdf
footprint SOIC-SO28_N (SOIC, 28-Leads, Body 17.9x7.5mm, Pitch 1.27mm, IPC Medium Density)
footprint SOIC-SO28_L (SOIC, 28-Leads, Body 17.9x7.5mm, Pitch 1.27mm, IPC High Density)
footprint SOIC-SO28_M (SOIC, 28-Leads, Body 17.9x7.5mm, Pitch 1.27mm, IPC Low Density)
pins: 1 VPP/~{MCLR}/RE3 (io), 2 VCAP/~{SS}/AN0/RA0 (io), 3 AN1/RA1 (io), 4 AN2/RA2 (io), 5 VREF/AN3/RA3 (io), 6 T0CKI/CPS6/RA4 (io), 7 VCAP/~{SS}/CPS7/AN4/RA5 (io), 8 VSS (power), 9 CLKIN/OSC1/RA7 (io), 10 VCAP/CLKOUT/OSC2/RA6 (io), 11 T1CKI/T1OSO/RC0 (io), 12 CCP2/T1OSI/RC1 (io), 13 CCP1/RC2 (io), 14 SCL/SCK/RC3 (io), 15 RC4/SDI/SDA (io), 16 RC5/SDO (io), 17 RC6/TX/CK (io), 18 RC7/RX/DT (io), 19 VSS (power), 20 VDD (power), 21 RB0/AN12/CPS0/INT (io), 22 RB1/AN10/CPS1 (io), 23 RB2/AN8/CPS2 (io), 24 RB3/AN9/CPS3/CCP2 (io), 25 RB4/AN11/CPS4 (io), 26 RB5/AN13/CPS5/T1G (io), 27 RB6/ICSPCLK (io), 28 RB7/ICSPDAT (io)

## PIC16F726-E/SP
designator U?
Flash-Based, 8-Bit CMOS Microcontroller, 8K (x14-Bit words) Program Memory, 368 Bytes Data Memory, 25 I/O pins, 28-Pin SPDIP, Standard VDD Range, Extended Temperature; Published: 29-Jan-2009; DatasheetVersion: revB, Aug-2008; PackageVersion: revAW, Oct-2008; PackageReference: SPDIP300-SP28; Publisher: Altium Limited; PackageDescription: 28-Lead Skinny Plastic Dual In-Line (SP) - 300 mil Body [SPDIP]; ComponentLink1Description: Manufacturer Link; ComponentLink1URL: http://www.microchip.com; ComponentLink2Description: Datasheet; ComponentLink2URL: http://ww1.microchip.com/downloads/en/DeviceDoc/41341B.pdf; ComponentLink3Description: Packaging Specification; ComponentLink3URL: http://ww1.microchip.com/downloads/en/PackagingSpec/00049AW.pdf
footprint SPDIP300-SP28 (DIP, 28-Leads, Row Spacing 7.62mm, Pitch 2.54mm, Body 34.9x6.8mm)
pins: 1 VPP/~{MCLR}/RE3 (io), 2 VCAP/~{SS}/AN0/RA0 (io), 3 AN1/RA1 (io), 4 AN2/RA2 (io), 5 VREF/AN3/RA3 (io), 6 T0CKI/CPS6/RA4 (io), 7 VCAP/~{SS}/CPS7/AN4/RA5 (io), 8 VSS (power), 9 CLKIN/OSC1/RA7 (io), 10 VCAP/CLKOUT/OSC2/RA6 (io), 11 T1CKI/T1OSO/RC0 (io), 12 CCP2/T1OSI/RC1 (io), 13 CCP1/RC2 (io), 14 SCL/SCK/RC3 (io), 15 RC4/SDI/SDA (io), 16 RC5/SDO (io), 17 RC6/TX/CK (io), 18 RC7/RX/DT (io), 19 VSS (power), 20 VDD (power), 21 RB0/AN12/CPS0/INT (io), 22 RB1/AN10/CPS1 (io), 23 RB2/AN8/CPS2 (io), 24 RB3/AN9/CPS3/CCP2 (io), 25 RB4/AN11/CPS4 (io), 26 RB5/AN13/CPS5/T1G (io), 27 RB6/ICSPCLK (io), 28 RB7/ICSPDAT (io)

## PIC16F726-E/SS
designator U?
Flash-Based, 8-Bit CMOS Microcontroller, 8K (x14-Bit words) Program Memory, 368 Bytes Data Memory, 25 I/O pins, 28-Pin SSOP, Standard VDD Range, Extended Temperature; Published: 29-Jan-2009; DatasheetVersion: revB, Aug-2008; PackageVersion: revAW, Oct-2008; PackageReference: SSOP-SS28; Publisher: Altium Limited; PackageDescription: 28-Lead Plastic Shrink Small Outline (SS) - 5.3mm Body [SSOP]; Code_JEDEC: MS-150; Code_IPC: SOP65P780-28; ComponentLink1Description: Manufacturer Link; ComponentLink1URL: http://www.microchip.com; ComponentLink2Description: Datasheet; ComponentLink2URL: http://ww1.microchip.com/downloads/en/DeviceDoc/41341B.pdf; ComponentLink3Description: Packaging Specification; ComponentLink3URL: http://ww1.microchip.com/downloads/en/PackagingSpec/00049AW.pdf
footprint SSOP-SS28_N (SOP, 28-Leads, Body 10.2x5.2mm, Pitch 0.65mm, IPC Medium Density)
footprint SSOP-SS28_L (SOP, 28-Leads, Body 10.2x5.2mm, Pitch 0.65mm, IPC High Density)
footprint SSOP-SS28_M (SOP, 28-Leads, Body 10.2x5.2mm, Pitch 0.65mm, IPC Low Density)
pins: 1 VPP/~{MCLR}/RE3 (io), 2 VCAP/~{SS}/AN0/RA0 (io), 3 AN1/RA1 (io), 4 AN2/RA2 (io), 5 VREF/AN3/RA3 (io), 6 T0CKI/CPS6/RA4 (io), 7 VCAP/~{SS}/CPS7/AN4/RA5 (io), 8 VSS (power), 9 CLKIN/OSC1/RA7 (io), 10 VCAP/CLKOUT/OSC2/RA6 (io), 11 T1CKI/T1OSO/RC0 (io), 12 CCP2/T1OSI/RC1 (io), 13 CCP1/RC2 (io), 14 SCL/SCK/RC3 (io), 15 RC4/SDI/SDA (io), 16 RC5/SDO (io), 17 RC6/TX/CK (io), 18 RC7/RX/DT (io), 19 VSS (power), 20 VDD (power), 21 RB0/AN12/CPS0/INT (io), 22 RB1/AN10/CPS1 (io), 23 RB2/AN8/CPS2 (io), 24 RB3/AN9/CPS3/CCP2 (io), 25 RB4/AN11/CPS4 (io), 26 RB5/AN13/CPS5/T1G (io), 27 RB6/ICSPCLK (io), 28 RB7/ICSPDAT (io)

## PIC16F726-I/ML
designator U?
Flash-Based, 8-Bit CMOS Microcontroller, 8K (x14-Bit words) Program Memory, 368 Bytes Data Memory, 25 I/O pins, 28-Pin QFN, Standard VDD Range, Industrial Temperature; Published: 29-Jan-2009; DatasheetVersion: revB, Aug-2008; PackageVersion: revAW, Oct-2008; PackageReference: QFN-ML28; Publisher: Altium Limited; PackageDescription: 28-Lead Plastic Quad Flat, No Lead Package (ML) - 6x6 mm Body [QFN] with 0.55 mm Contact Length; Code_JEDEC: MO-220; Code_IPC: QFN65P600X600-28V; ComponentLink1Description: Manufacturer Link; ComponentLink1URL: http://www.microchip.com; ComponentLink2Description: Datasheet; ComponentLink2URL: http://ww1.microchip.com/downloads/en/DeviceDoc/41341B.pdf; ComponentLink3Description: Packaging Specification; ComponentLink3URL: http://ww1.microchip.com/downloads/en/PackagingSpec/00049AW.pdf
footprint QFN-ML28_N (QFN, 28-Leads, Body 6x6 mm, Pitch 0.65mm, IPC Medium Density)
footprint QFN-ML28_L (QFN, 28-Leads, Body 6x6 mm, Pitch 0.65mm, IPC High Density)
footprint QFN-ML28_M (QFN, 28-Leads, Body 6x6 mm, Pitch 0.65mm, IPC Low Density)
pins: 1 AN2/RA2 (io), 2 VREF/AN3/RA3 (io), 3 T0CKI/CPS6/RA4 (io), 4 VCAP/~{SS}/CPS7/AN4/RA5 (io), 5 VSS (power), 6 CLKIN/OSC1/RA7 (io), 7 VCAP/CLKOUT/OSC2/RA6 (io), 8 T1CKI/T1OSO/RC0 (io), 9 CCP2/T1OSI/RC1 (io), 10 CCP1/RC2 (io), 11 SCL/SCK/RC3 (io), 12 SDA/SDI/RC4 (io), 13 SDO/RC5 (io), 14 CK/TX/RC6 (io), 15 RC7/RX/DT (io), 16 VSS (power), 17 VDD (power), 18 RB0/AN12/CPS0/INT (io), 19 RB1/AN10/CPS1 (io), 20 RB2/AN8/CPS2 (io), 21 RB3/AN9/CPS3/CCP2 (io), 22 RB4/AN11/CPS4 (io), 23 RB5/AN13/CPS5/T1G (io), 24 RB6/ICSPCLK (io), 25 RB7/ICSPDAT (io), 26 RE3/~{MCLR}/VPP (io), 27 RA0/AN0/~{SS}/VCAP (io), 28 RA1/AN1 (io), 29 Thermal Pad

## PIC16F726-I/SO
designator U?
Flash-Based, 8-Bit CMOS Microcontroller, 8K (x14-Bit words) Program Memory, 368 Bytes Data Memory, 25 I/O pins, 28-Pin SOIC, Standard VDD Range, Industrial Temperature; Published: 29-Jan-2009; DatasheetVersion: revB, Aug-2008; PackageVersion: revAW, Oct-2008; PackageReference: SOIC-SO28; Publisher: Altium Limited; PackageDescription: 28-Lead Plastic Small Outline (SO) - Wide 7.50mm Body [SOIC]; Code_JEDEC: MS-013; ComponentLink1Description: Manufacturer Link; ComponentLink1URL: http://www.microchip.com; ComponentLink2Description: Datasheet; ComponentLink2URL: http://ww1.microchip.com/downloads/en/DeviceDoc/41341B.pdf; ComponentLink3Description: Packaging Specification; ComponentLink3URL: http://ww1.microchip.com/downloads/en/PackagingSpec/00049AW.pdf
footprint SOIC-SO28_N (SOIC, 28-Leads, Body 17.9x7.5mm, Pitch 1.27mm, IPC Medium Density)
footprint SOIC-SO28_L (SOIC, 28-Leads, Body 17.9x7.5mm, Pitch 1.27mm, IPC High Density)
footprint SOIC-SO28_M (SOIC, 28-Leads, Body 17.9x7.5mm, Pitch 1.27mm, IPC Low Density)
pins: 1 VPP/~{MCLR}/RE3 (io), 2 VCAP/~{SS}/AN0/RA0 (io), 3 AN1/RA1 (io), 4 AN2/RA2 (io), 5 VREF/AN3/RA3 (io), 6 T0CKI/CPS6/RA4 (io), 7 VCAP/~{SS}/CPS7/AN4/RA5 (io), 8 VSS (power), 9 CLKIN/OSC1/RA7 (io), 10 VCAP/CLKOUT/OSC2/RA6 (io), 11 T1CKI/T1OSO/RC0 (io), 12 CCP2/T1OSI/RC1 (io), 13 CCP1/RC2 (io), 14 SCL/SCK/RC3 (io), 15 RC4/SDI/SDA (io), 16 RC5/SDO (io), 17 RC6/TX/CK (io), 18 RC7/RX/DT (io), 19 VSS (power), 20 VDD (power), 21 RB0/AN12/CPS0/INT (io), 22 RB1/AN10/CPS1 (io), 23 RB2/AN8/CPS2 (io), 24 RB3/AN9/CPS3/CCP2 (io), 25 RB4/AN11/CPS4 (io), 26 RB5/AN13/CPS5/T1G (io), 27 RB6/ICSPCLK (io), 28 RB7/ICSPDAT (io)

## PIC16F726-I/SP
designator U?
Flash-Based, 8-Bit CMOS Microcontroller, 8K (x14-Bit words) Program Memory, 368 Bytes Data Memory, 25 I/O pins, 28-Pin SPDIP, Standard VDD Range, Industrial Temperature; Published: 29-Jan-2009; DatasheetVersion: revB, Aug-2008; PackageVersion: revAW, Oct-2008; PackageReference: SPDIP300-SP28; Publisher: Altium Limited; PackageDescription: 28-Lead Skinny Plastic Dual In-Line (SP) - 300 mil Body [SPDIP]; ComponentLink1Description: Manufacturer Link; ComponentLink1URL: http://www.microchip.com; ComponentLink2Description: Datasheet; ComponentLink2URL: http://ww1.microchip.com/downloads/en/DeviceDoc/41341B.pdf; ComponentLink3Description: Packaging Specification; ComponentLink3URL: http://ww1.microchip.com/downloads/en/PackagingSpec/00049AW.pdf
footprint SPDIP300-SP28 (DIP, 28-Leads, Row Spacing 7.62mm, Pitch 2.54mm, Body 34.9x6.8mm)
pins: 1 VPP/~{MCLR}/RE3 (io), 2 VCAP/~{SS}/AN0/RA0 (io), 3 AN1/RA1 (io), 4 AN2/RA2 (io), 5 VREF/AN3/RA3 (io), 6 T0CKI/CPS6/RA4 (io), 7 VCAP/~{SS}/CPS7/AN4/RA5 (io), 8 VSS (power), 9 CLKIN/OSC1/RA7 (io), 10 VCAP/CLKOUT/OSC2/RA6 (io), 11 T1CKI/T1OSO/RC0 (io), 12 CCP2/T1OSI/RC1 (io), 13 CCP1/RC2 (io), 14 SCL/SCK/RC3 (io), 15 RC4/SDI/SDA (io), 16 RC5/SDO (io), 17 RC6/TX/CK (io), 18 RC7/RX/DT (io), 19 VSS (power), 20 VDD (power), 21 RB0/AN12/CPS0/INT (io), 22 RB1/AN10/CPS1 (io), 23 RB2/AN8/CPS2 (io), 24 RB3/AN9/CPS3/CCP2 (io), 25 RB4/AN11/CPS4 (io), 26 RB5/AN13/CPS5/T1G (io), 27 RB6/ICSPCLK (io), 28 RB7/ICSPDAT (io)

## PIC16F726-I/SS
designator U?
Flash-Based, 8-Bit CMOS Microcontroller, 8K (x14-Bit words) Program Memory, 368 Bytes Data Memory, 25 I/O pins, 28-Pin SSOP, Standard VDD Range, Industrial Temperature; Published: 29-Jan-2009; DatasheetVersion: revB, Aug-2008; PackageVersion: revAW, Oct-2008; PackageReference: SSOP-SS28; Publisher: Altium Limited; PackageDescription: 28-Lead Plastic Shrink Small Outline (SS) - 5.3mm Body [SSOP]; Code_JEDEC: MS-150; Code_IPC: SOP65P780-28; ComponentLink1Description: Manufacturer Link; ComponentLink1URL: http://www.microchip.com; ComponentLink2Description: Datasheet; ComponentLink2URL: http://ww1.microchip.com/downloads/en/DeviceDoc/41341B.pdf; ComponentLink3Description: Packaging Specification; ComponentLink3URL: http://ww1.microchip.com/downloads/en/PackagingSpec/00049AW.pdf
footprint SSOP-SS28_N (SOP, 28-Leads, Body 10.2x5.2mm, Pitch 0.65mm, IPC Medium Density)
footprint SSOP-SS28_L (SOP, 28-Leads, Body 10.2x5.2mm, Pitch 0.65mm, IPC High Density)
footprint SSOP-SS28_M (SOP, 28-Leads, Body 10.2x5.2mm, Pitch 0.65mm, IPC Low Density)
pins: 1 VPP/~{MCLR}/RE3 (io), 2 VCAP/~{SS}/AN0/RA0 (io), 3 AN1/RA1 (io), 4 AN2/RA2 (io), 5 VREF/AN3/RA3 (io), 6 T0CKI/CPS6/RA4 (io), 7 VCAP/~{SS}/CPS7/AN4/RA5 (io), 8 VSS (power), 9 CLKIN/OSC1/RA7 (io), 10 VCAP/CLKOUT/OSC2/RA6 (io), 11 T1CKI/T1OSO/RC0 (io), 12 CCP2/T1OSI/RC1 (io), 13 CCP1/RC2 (io), 14 SCL/SCK/RC3 (io), 15 RC4/SDI/SDA (io), 16 RC5/SDO (io), 17 RC6/TX/CK (io), 18 RC7/RX/DT (io), 19 VSS (power), 20 VDD (power), 21 RB0/AN12/CPS0/INT (io), 22 RB1/AN10/CPS1 (io), 23 RB2/AN8/CPS2 (io), 24 RB3/AN9/CPS3/CCP2 (io), 25 RB4/AN11/CPS4 (io), 26 RB5/AN13/CPS5/T1G (io), 27 RB6/ICSPCLK (io), 28 RB7/ICSPDAT (io)

## PIC16F726T-E/SO
designator U?
Flash-Based, 8-Bit CMOS Microcontroller, 8K (x14-Bit words) Program Memory, 368 Bytes Data Memory, 25 I/O pins, 28-Pin SOIC, Standard VDD Range, Extended Temperature, Tape and Reel; Published: 29-Jan-2009; DatasheetVersion: revB, Aug-2008; PackageVersion: revAW, Oct-2008; PackageReference: SOIC-SO28; Publisher: Altium Limited; PackageDescription: 28-Lead Plastic Small Outline (SO) - Wide 7.50mm Body [SOIC]; Code_JEDEC: MS-013; ComponentLink1Description: Manufacturer Link; ComponentLink1URL: http://www.microchip.com; ComponentLink2Description: Datasheet; ComponentLink2URL: http://ww1.microchip.com/downloads/en/DeviceDoc/41341B.pdf; ComponentLink3Description: Packaging Specification; ComponentLink3URL: http://ww1.microchip.com/downloads/en/PackagingSpec/00049AW.pdf
footprint SOIC-SO28_N (SOIC, 28-Leads, Body 17.9x7.5mm, Pitch 1.27mm, IPC Medium Density)
footprint SOIC-SO28_L (SOIC, 28-Leads, Body 17.9x7.5mm, Pitch 1.27mm, IPC High Density)
footprint SOIC-SO28_M (SOIC, 28-Leads, Body 17.9x7.5mm, Pitch 1.27mm, IPC Low Density)
pins: 1 VPP/~{MCLR}/RE3 (io), 2 VCAP/~{SS}/AN0/RA0 (io), 3 AN1/RA1 (io), 4 AN2/RA2 (io), 5 VREF/AN3/RA3 (io), 6 T0CKI/CPS6/RA4 (io), 7 VCAP/~{SS}/CPS7/AN4/RA5 (io), 8 VSS (power), 9 CLKIN/OSC1/RA7 (io), 10 VCAP/CLKOUT/OSC2/RA6 (io), 11 T1CKI/T1OSO/RC0 (io), 12 CCP2/T1OSI/RC1 (io), 13 CCP1/RC2 (io), 14 SCL/SCK/RC3 (io), 15 RC4/SDI/SDA (io), 16 RC5/SDO (io), 17 RC6/TX/CK (io), 18 RC7/RX/DT (io), 19 VSS (power), 20 VDD (power), 21 RB0/AN12/CPS0/INT (io), 22 RB1/AN10/CPS1 (io), 23 RB2/AN8/CPS2 (io), 24 RB3/AN9/CPS3/CCP2 (io), 25 RB4/AN11/CPS4 (io), 26 RB5/AN13/CPS5/T1G (io), 27 RB6/ICSPCLK (io), 28 RB7/ICSPDAT (io)

## PIC16F726T-I/ML
designator U?
Flash-Based, 8-Bit CMOS Microcontroller, 8K (x14-Bit words) Program Memory, 368 Bytes Data Memory, 25 I/O pins, 28-Pin QFN, Standard VDD Range, Industrial Temperature, Tape and Reel; Published: 29-Jan-2009; DatasheetVersion: revB, Aug-2008; PackageVersion: revAW, Oct-2008; PackageReference: QFN-ML28; Publisher: Altium Limited; PackageDescription: 28-Lead Plastic Quad Flat, No Lead Package (ML) - 6x6 mm Body [QFN] with 0.55 mm Contact Length; Code_JEDEC: MO-220; Code_IPC: QFN65P600X600-28V; ComponentLink1Description: Manufacturer Link; ComponentLink1URL: http://www.microchip.com; ComponentLink2Description: Datasheet; ComponentLink2URL: http://ww1.microchip.com/downloads/en/DeviceDoc/41341B.pdf; ComponentLink3Description: Packaging Specification; ComponentLink3URL: http://ww1.microchip.com/downloads/en/PackagingSpec/00049AW.pdf
footprint QFN-ML28_N (QFN, 28-Leads, Body 6x6 mm, Pitch 0.65mm, IPC Medium Density)
footprint QFN-ML28_L (QFN, 28-Leads, Body 6x6 mm, Pitch 0.65mm, IPC High Density)
footprint QFN-ML28_M (QFN, 28-Leads, Body 6x6 mm, Pitch 0.65mm, IPC Low Density)
pins: 1 AN2/RA2 (io), 2 VREF/AN3/RA3 (io), 3 T0CKI/CPS6/RA4 (io), 4 VCAP/~{SS}/CPS7/AN4/RA5 (io), 5 VSS (power), 6 CLKIN/OSC1/RA7 (io), 7 VCAP/CLKOUT/OSC2/RA6 (io), 8 T1CKI/T1OSO/RC0 (io), 9 CCP2/T1OSI/RC1 (io), 10 CCP1/RC2 (io), 11 SCL/SCK/RC3 (io), 12 SDA/SDI/RC4 (io), 13 SDO/RC5 (io), 14 CK/TX/RC6 (io), 15 RC7/RX/DT (io), 16 VSS (power), 17 VDD (power), 18 RB0/AN12/CPS0/INT (io), 19 RB1/AN10/CPS1 (io), 20 RB2/AN8/CPS2 (io), 21 RB3/AN9/CPS3/CCP2 (io), 22 RB4/AN11/CPS4 (io), 23 RB5/AN13/CPS5/T1G (io), 24 RB6/ICSPCLK (io), 25 RB7/ICSPDAT (io), 26 RE3/~{MCLR}/VPP (io), 27 RA0/AN0/~{SS}/VCAP (io), 28 RA1/AN1 (io), 29 Thermal Pad

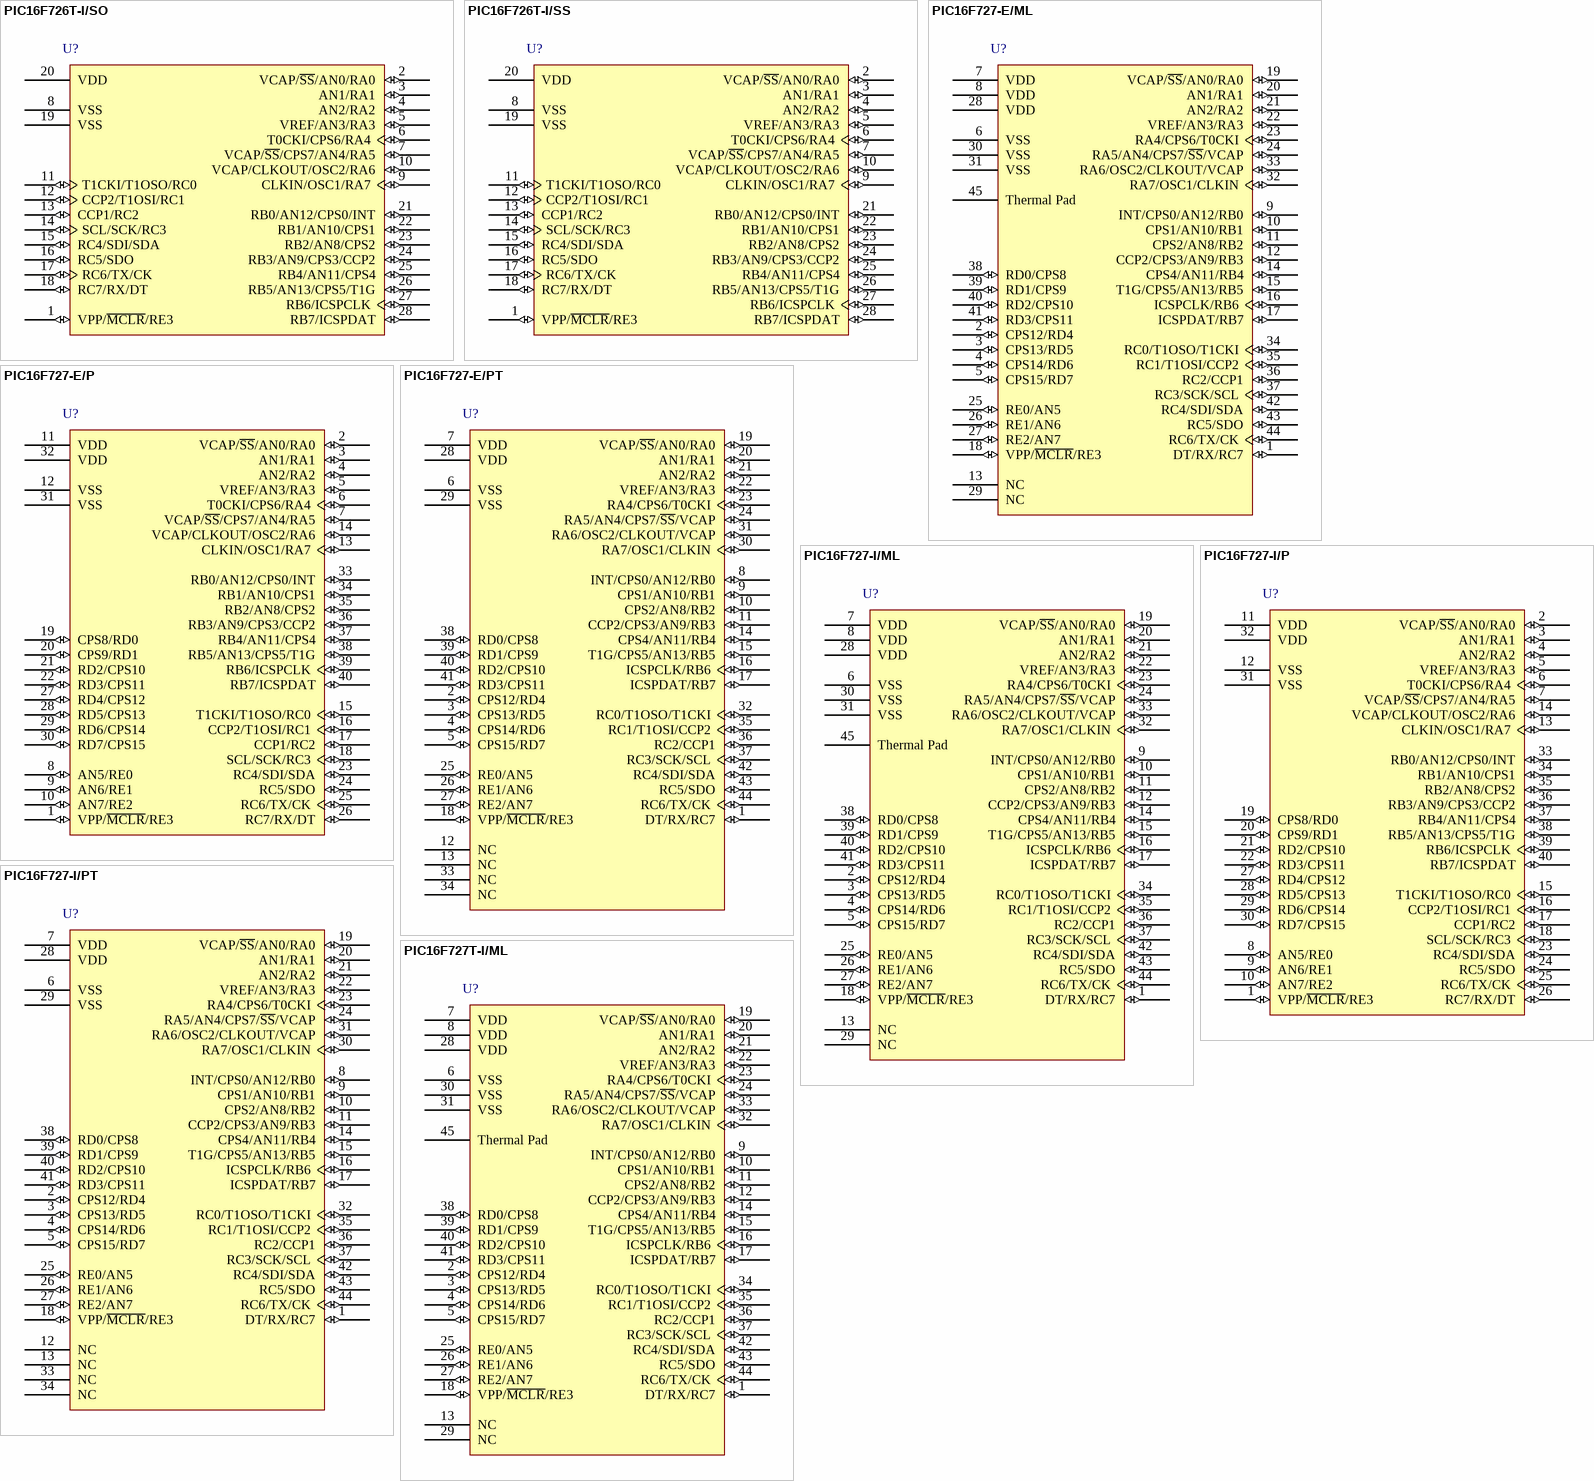
[diagram p55: symbols PIC16F726T-I/SO to PIC16F727T-I/ML]

## PIC16F726T-I/SO
designator U?
Flash-Based, 8-Bit CMOS Microcontroller, 8K (x14-Bit words) Program Memory, 368 Bytes Data Memory, 25 I/O pins, 28-Pin SOIC, Standard VDD Range, Industrial Temperature, Tape and Reel; Published: 29-Jan-2009; DatasheetVersion: revB, Aug-2008; PackageVersion: revAW, Oct-2008; PackageReference: SOIC-SO28; Publisher: Altium Limited; PackageDescription: 28-Lead Plastic Small Outline (SO) - Wide 7.50mm Body [SOIC]; Code_JEDEC: MS-013; ComponentLink1Description: Manufacturer Link; ComponentLink1URL: http://www.microchip.com; ComponentLink2Description: Datasheet; ComponentLink2URL: http://ww1.microchip.com/downloads/en/DeviceDoc/41341B.pdf; ComponentLink3Description: Packaging Specification; ComponentLink3URL: http://ww1.microchip.com/downloads/en/PackagingSpec/00049AW.pdf
footprint SOIC-SO28_N (SOIC, 28-Leads, Body 17.9x7.5mm, Pitch 1.27mm, IPC Medium Density)
footprint SOIC-SO28_L (SOIC, 28-Leads, Body 17.9x7.5mm, Pitch 1.27mm, IPC High Density)
footprint SOIC-SO28_M (SOIC, 28-Leads, Body 17.9x7.5mm, Pitch 1.27mm, IPC Low Density)
pins: 1 VPP/~{MCLR}/RE3 (io), 2 VCAP/~{SS}/AN0/RA0 (io), 3 AN1/RA1 (io), 4 AN2/RA2 (io), 5 VREF/AN3/RA3 (io), 6 T0CKI/CPS6/RA4 (io), 7 VCAP/~{SS}/CPS7/AN4/RA5 (io), 8 VSS (power), 9 CLKIN/OSC1/RA7 (io), 10 VCAP/CLKOUT/OSC2/RA6 (io), 11 T1CKI/T1OSO/RC0 (io), 12 CCP2/T1OSI/RC1 (io), 13 CCP1/RC2 (io), 14 SCL/SCK/RC3 (io), 15 RC4/SDI/SDA (io), 16 RC5/SDO (io), 17 RC6/TX/CK (io), 18 RC7/RX/DT (io), 19 VSS (power), 20 VDD (power), 21 RB0/AN12/CPS0/INT (io), 22 RB1/AN10/CPS1 (io), 23 RB2/AN8/CPS2 (io), 24 RB3/AN9/CPS3/CCP2 (io), 25 RB4/AN11/CPS4 (io), 26 RB5/AN13/CPS5/T1G (io), 27 RB6/ICSPCLK (io), 28 RB7/ICSPDAT (io)